# Altium integrated library adafruit.IntLib: 666 symbols (part 2 of 4)
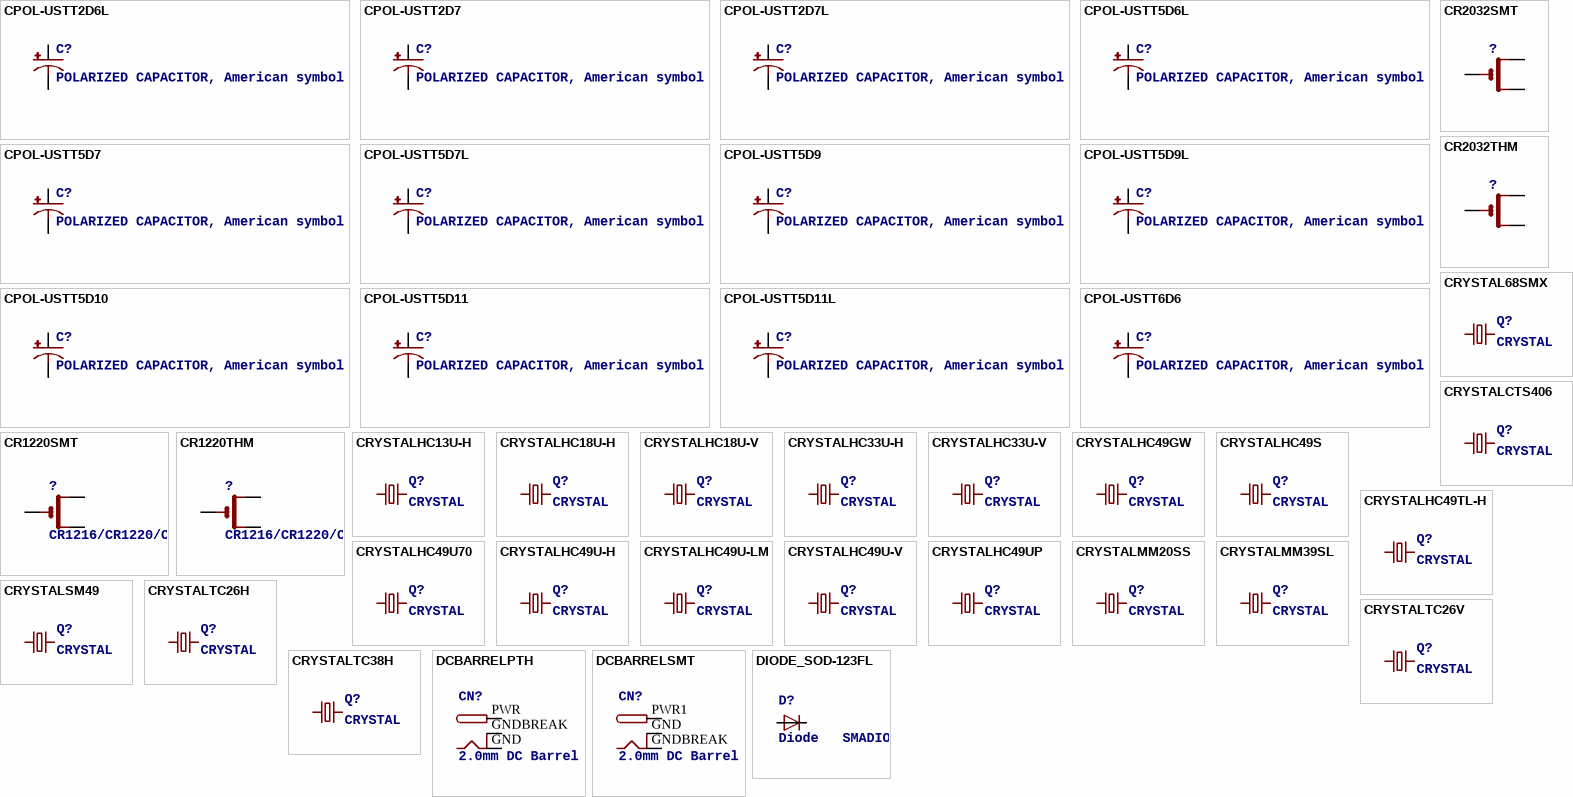
[diagram p32: symbols CPOL-USTT2D6L to DIODE_SOD-123FL]

## CRYSTALHC49TL-H
designator Q?, comment CRYSTAL
OC_FARNELL: unknown; OC_NEWARK: unknown
footprint HC49TL-H
pins: 1, 2

## CRYSTALHC49U70
designator Q?, comment CRYSTAL
OC_FARNELL: unknown; OC_NEWARK: unknown
footprint HC49U70
pins: 1, 2

## CRYSTALHC49U-H
designator Q?, comment CRYSTAL
OC_FARNELL: 1666973; OC_NEWARK: unknown
footprint HC49U-H
pins: 1, 2

## CRYSTALHC49U-LM
designator Q?, comment CRYSTAL
OC_FARNELL: 1666956; OC_NEWARK: unknown
footprint HC49U-LM
pins: 1, 2

## CRYSTALHC49U-V
designator Q?, comment CRYSTAL
OC_FARNELL: 1666969; OC_NEWARK: unknown
footprint HC49U-V
pins: 1, 2

## CRYSTALHC49UP
designator Q?, comment CRYSTAL
OC_FARNELL: unknown; OC_NEWARK: unknown
footprint HC49UP
pins: 1, 2

## CRYSTALMM20SS
designator Q?, comment CRYSTAL
OC_FARNELL: unknown; OC_NEWARK: unknown
footprint MM20SS
pins: 1, 4 2

## CRYSTALMM39SL
designator Q?, comment CRYSTAL
OC_FARNELL: unknown; OC_NEWARK: unknown
footprint MM39SL
pins: 1, 4 2

## CRYSTALSM49
designator Q?, comment CRYSTAL
OC_FARNELL: unknown; OC_NEWARK: unknown
footprint SM49
pins: 1, 2

## CRYSTALTC26H
designator Q?, comment CRYSTAL
OC_FARNELL: unknown; OC_NEWARK: unknown
footprint TC26H
pins: 1, 2

## CRYSTALTC26V
designator Q?, comment CRYSTAL
OC_FARNELL: unknown; OC_NEWARK: unknown
footprint TC26V
pins: 1, 2

## CRYSTALTC38H
designator Q?, comment CRYSTAL
OC_FARNELL: unknown; OC_NEWARK: unknown
footprint TC38H
pins: 1, 2

## DCBARRELPTH
designator CN?, comment 2.0mm DC Barrel JackDCJACK_2MM_PTH - Through Hole Jack (4UConnector: 05537)
footprint DCJACK_2MM_PTH
pins: GND (power), GNDBREAK (power), PWR (power)

## DCBARRELSMT
designator CN?, comment 2.0mm DC Barrel JackDCJACK_2MM_PTH - Through Hole Jack (4UConnector: 05537)
footprint DCJACK_2MM_SMT
pins: GND GNDBREAK (power), GNDBREAK GND (power), PWR1 PWR (power)

## DIODE_SOD-123FL
designator D?, comment Diode   SMADIODE - SMA Surface Mount Package  20V 1A Schottky Diode Digikey: 641-1014-6-ND    DO-1N4148 - Through Hole Small Current Diode SOD-123 20V 1 A (.5mV Vf) Schottky Diode - Digikey: MBRX120TPMSCT-ND    SOD-323 10V 570mA (.38mV Vf, 3ns) Schottky Diode - Digikey: ZLLS410CT-ND    SOD-523 30V 30mA Schottky Diode (RB751S-40TE61) - Digikey: RB751S-40TE61CT-ND    SOT23-R/W - SOT23 Package (R = Solder Paste/Reflow Ovens, W = Hand-Soldering)  BAT54Film 40V 300mA - Digikey: 497-7162-1-ND
footprint SOD-123FL
pins: A, C

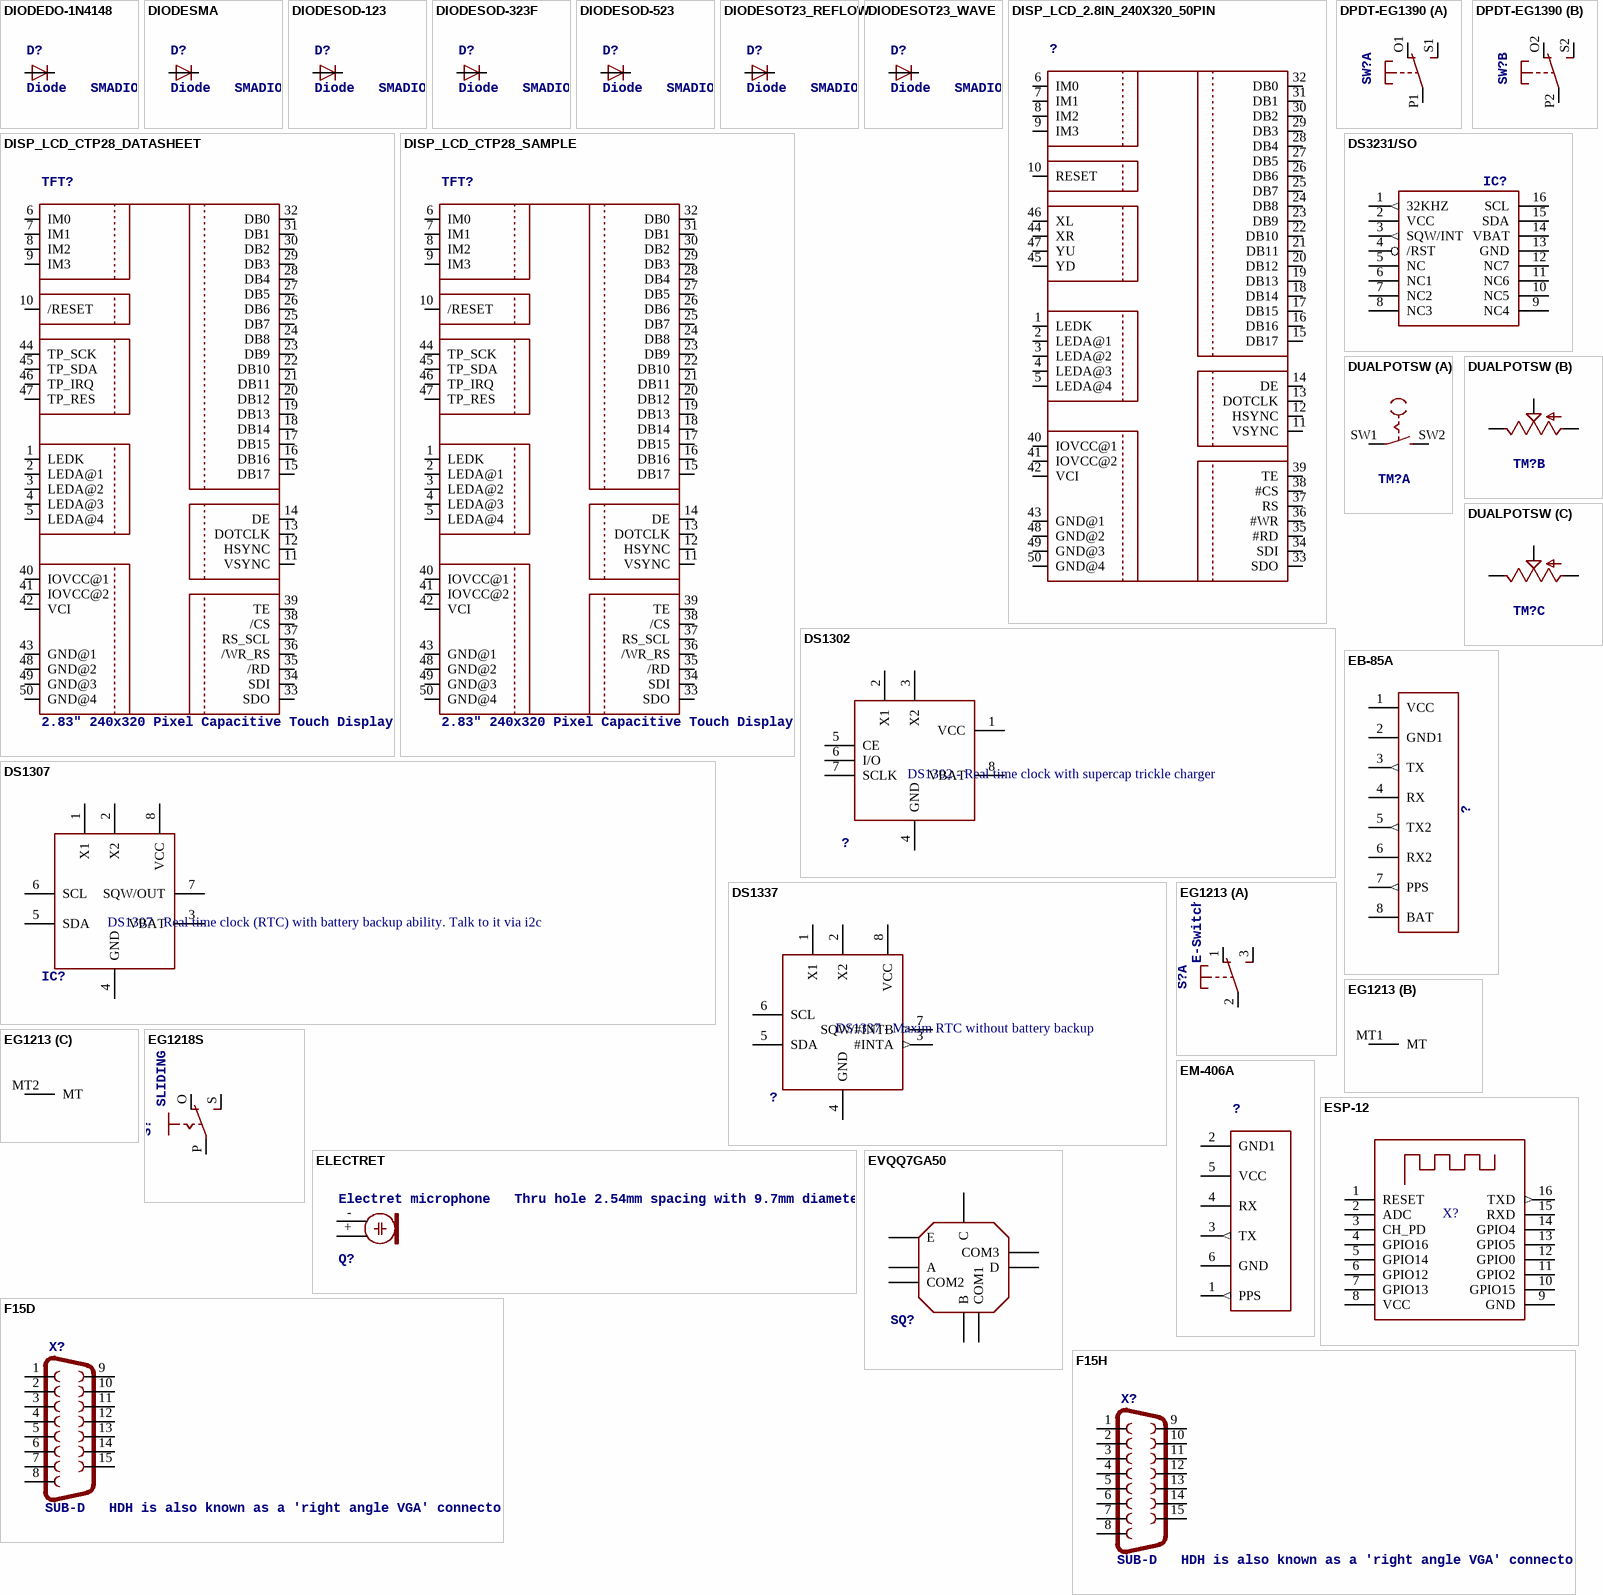
[diagram p16: symbols DIODEDO-1N4148 to F15H]

## DIODEDO-1N4148
designator D?, comment Diode   SMADIODE - SMA Surface Mount Package  20V 1A Schottky Diode Digikey: 641-1014-6-ND    DO-1N4148 - Through Hole Small Current Diode SOD-123 20V 1 A (.5mV Vf) Schottky Diode - Digikey: MBRX120TPMSCT-ND    SOD-323 10V 570mA (.38mV Vf, 3ns) Schottky Diode - Digikey: ZLLS410CT-ND    SOD-523 30V 30mA Schottky Diode (RB751S-40TE61) - Digikey: RB751S-40TE61CT-ND    SOT23-R/W - SOT23 Package (R = Solder Paste/Reflow Ovens, W = Hand-Soldering)  BAT54Film 40V 300mA - Digikey: 497-7162-1-ND
footprint DO-1N4148
pins: A, C

## DIODESMA
designator D?, comment Diode   SMADIODE - SMA Surface Mount Package  20V 1A Schottky Diode Digikey: 641-1014-6-ND    DO-1N4148 - Through Hole Small Current Diode SOD-123 20V 1 A (.5mV Vf) Schottky Diode - Digikey: MBRX120TPMSCT-ND    SOD-323 10V 570mA (.38mV Vf, 3ns) Schottky Diode - Digikey: ZLLS410CT-ND    SOD-523 30V 30mA Schottky Diode (RB751S-40TE61) - Digikey: RB751S-40TE61CT-ND    SOT23-R/W - SOT23 Package (R = Solder Paste/Reflow Ovens, W = Hand-Soldering)  BAT54Film 40V 300mA - Digikey: 497-7162-1-ND
footprint SMADIODE
pins: A, C

## DIODESOD-123
designator D?, comment Diode   SMADIODE - SMA Surface Mount Package  20V 1A Schottky Diode Digikey: 641-1014-6-ND    DO-1N4148 - Through Hole Small Current Diode SOD-123 20V 1 A (.5mV Vf) Schottky Diode - Digikey: MBRX120TPMSCT-ND    SOD-323 10V 570mA (.38mV Vf, 3ns) Schottky Diode - Digikey: ZLLS410CT-ND    SOD-523 30V 30mA Schottky Diode (RB751S-40TE61) - Digikey: RB751S-40TE61CT-ND    SOT23-R/W - SOT23 Package (R = Solder Paste/Reflow Ovens, W = Hand-Soldering)  BAT54Film 40V 300mA - Digikey: 497-7162-1-ND
footprint SOD-123
pins: A, C

## DIODESOD-323F
designator D?, comment Diode   SMADIODE - SMA Surface Mount Package  20V 1A Schottky Diode Digikey: 641-1014-6-ND    DO-1N4148 - Through Hole Small Current Diode SOD-123 20V 1 A (.5mV Vf) Schottky Diode - Digikey: MBRX120TPMSCT-ND    SOD-323 10V 570mA (.38mV Vf, 3ns) Schottky Diode - Digikey: ZLLS410CT-ND    SOD-523 30V 30mA Schottky Diode (RB751S-40TE61) - Digikey: RB751S-40TE61CT-ND    SOT23-R/W - SOT23 Package (R = Solder Paste/Reflow Ovens, W = Hand-Soldering)  BAT54Film 40V 300mA - Digikey: 497-7162-1-ND
footprint SOD-323F
pins: A, C

## DIODESOD-523
designator D?, comment Diode   SMADIODE - SMA Surface Mount Package  20V 1A Schottky Diode Digikey: 641-1014-6-ND    DO-1N4148 - Through Hole Small Current Diode SOD-123 20V 1 A (.5mV Vf) Schottky Diode - Digikey: MBRX120TPMSCT-ND    SOD-323 10V 570mA (.38mV Vf, 3ns) Schottky Diode - Digikey: ZLLS410CT-ND    SOD-523 30V 30mA Schottky Diode (RB751S-40TE61) - Digikey: RB751S-40TE61CT-ND    SOT23-R/W - SOT23 Package (R = Solder Paste/Reflow Ovens, W = Hand-Soldering)  BAT54Film 40V 300mA - Digikey: 497-7162-1-ND
footprint SOD-523
pins: A, K C

## DIODESOT23_REFLOW
designator D?, comment Diode   SMADIODE - SMA Surface Mount Package  20V 1A Schottky Diode Digikey: 641-1014-6-ND    DO-1N4148 - Through Hole Small Current Diode SOD-123 20V 1 A (.5mV Vf) Schottky Diode - Digikey: MBRX120TPMSCT-ND    SOD-323 10V 570mA (.38mV Vf, 3ns) Schottky Diode - Digikey: ZLLS410CT-ND    SOD-523 30V 30mA Schottky Diode (RB751S-40TE61) - Digikey: RB751S-40TE61CT-ND    SOT23-R/W - SOT23 Package (R = Solder Paste/Reflow Ovens, W = Hand-Soldering)  BAT54Film 40V 300mA - Digikey: 497-7162-1-ND
footprint SOT23-R
pins: 1 A, 3 C

## DIODESOT23_WAVE
designator D?, comment Diode   SMADIODE - SMA Surface Mount Package  20V 1A Schottky Diode Digikey: 641-1014-6-ND    DO-1N4148 - Through Hole Small Current Diode SOD-123 20V 1 A (.5mV Vf) Schottky Diode - Digikey: MBRX120TPMSCT-ND    SOD-323 10V 570mA (.38mV Vf, 3ns) Schottky Diode - Digikey: ZLLS410CT-ND    SOD-523 30V 30mA Schottky Diode (RB751S-40TE61) - Digikey: RB751S-40TE61CT-ND    SOT23-R/W - SOT23 Package (R = Solder Paste/Reflow Ovens, W = Hand-Soldering)  BAT54Film 40V 300mA - Digikey: 497-7162-1-ND
footprint SOT23-W
pins: 1 A, 3 C

## DISP_LCD_2.8IN_240X320_50PIN
designator ?
footprint TFT_2.83IN_240X320_50PIN
pins: 1 LEDK, 2 LEDA@1, 3 LEDA@2, 4 LEDA@3, 5 LEDA@4, 6 IM0, 7 IM1, 8 IM2, 9 IM3, 10 RESET, 11 VSYNC, 12 HSYNC, 13 DOTCLK, 14 DE, 15 DB17, 16 DB16, 17 DB15, 18 DB14, 19 DB13, 20 DB12, 21 DB11, 22 DB10, 23 DB9, 24 DB8, 25 DB7, 26 DB6, 27 DB5, 28 DB4, 29 DB3, 30 DB2, 31 DB1, 32 DB0, 33 SDO, 34 SDI, 35 #RD, 36 #WR, 37 RS, 38 #CS, 39 TE, 40 IOVCC@1, 41 IOVCC@2, 42 VCI, 43 GND@1, 44 XR, 45 YD, 46 XL, 47 YU, 48 GND@2, 49 GND@3, 50 GND@4

## DISP_LCD_CTP28_DATASHEET
designator TFT?, comment 2.83" 240x320 Pixel Capacitive Touch Display
footprint TFT_CTP28
pins: 1 LEDK, 2 LEDA@1, 3 LEDA@2, 4 LEDA@3, 5 LEDA@4, 6 IM0, 7 IM1, 8 IM2, 9 IM3, 10 /RESET, 11 VSYNC, 12 HSYNC, 13 DOTCLK, 14 DE, 15 DB17, 16 DB16, 17 DB15, 18 DB14, 19 DB13, 20 DB12, 21 DB11, 22 DB10, 23 DB9, 24 DB8, 25 DB7, 26 DB6, 27 DB5, 28 DB4, 29 DB3, 30 DB2, 31 DB1, 32 DB0, 33 SDO, 34 SDI, 35 /RD, 36 /WR_RS, 37 RS_SCL, 38 /CS, 39 TE, 40 IOVCC@1, 41 IOVCC@2, 42 VCI, 43 GND@1, 44 TP_SCK, 45 TP_SDA, 46 TP_IRQ, 47 TP_RES, 48 GND@2, 49 GND@3, 50 GND@4

## DISP_LCD_CTP28_SAMPLE
designator TFT?, comment 2.83" 240x320 Pixel Capacitive Touch Display
footprint TFT_2.83IN_240X320_50PIN
pins: 1 LEDK, 2 LEDA@1, 3 LEDA@2, 4 LEDA@3, 5 LEDA@4, 6 IM0, 7 IM1, 8 IM2, 9 IM3, 10 /RESET, 11 VSYNC, 12 HSYNC, 13 DOTCLK, 14 DE, 15 DB17, 16 DB16, 17 DB15, 18 DB14, 19 DB13, 20 DB12, 21 DB11, 22 DB10, 23 DB9, 24 DB8, 25 DB7, 26 DB6, 27 DB5, 28 DB4, 29 DB3, 30 DB2, 31 DB1, 32 DB0, 33 SDO, 34 SDI, 35 /RD, 36 /WR_RS, 37 RS_SCL, 38 /CS, 39 TE, 40 IOVCC@1, 41 IOVCC@2, 42 VCI, 43 GND@1, 44 TP_SCK, 45 TP_SDA, 46 TP_IRQ, 47 TP_RES, 48 GND@2, 49 GND@3, 50 GND@4

## DPDT-EG1390
designator SW?
footprint EG1390
part A pins: O1 O, P1 P, S1 S
part B pins: O2 O, P2 P, S2 S

## DS1302
designator ?, comment DS1302 - Real time clock with supercap trickle charger
footprint DIL08-ROUND
pins: 1 VCC (power), 2 X1, 3 X2, 4 GND (power), 5 CE, 6 I/O, 7 SCLK, 8 VBAT (power)

## DS1307
designator IC?, comment DS1307   Real time clock (RTC) with battery backup ability. Talk to it via i2c
footprint DIL08
pins: 1 X1, 2 X2, 3 VBAT (power), 4 GND (power), 5 SDA, 6 SCL, 7 SQW/OUT, 8 VCC (power)

## DS1337
designator ?, comment DS1337 - Maxim RTC without battery backup
footprint DIL08-ROUND
pins: 1 X1, 2 X2, 3 #INTA (out), 4 GND (power), 5 SDA, 6 SCL, 7 SQW/#INTB (out), 8 VCC (power)

## DS3231/SO
designator IC?
footprint SO16W
pins: 1 32KHZ (out), 2 VCC (power), 3 SQW/INT (out), 4 /RST, 5 NC, 6 NC1, 7 NC2, 8 NC3, 9 NC4, 10 NC5, 11 NC6, 12 NC7, 13 GND (power), 14 VBAT (power), 15 SDA, 16 SCL

## DUALPOTSW
designator TM?
footprint RK0971221
part A pins: SW1 P, SW2 S
part B pins: A2 E, B2 A, W2 S
part C pins: A1 E, B1 A, W1 S

## EB-85A
designator ?
footprint JST-8POS
pins: 1 VCC (oe), 2 GND1 (oe), 3 TX (out), 4 RX, 5 TX2 (out), 6 RX2, 7 PPS (out), 8 BAT (oe)

## EG1213
designator S?, comment E-Switch right-angle slide SPDT Part #EG1213    http://www.ladyada.net/library/eagle
footprint EG1213
part A pins: 1 O, 2 P, 3 S
part B pins: MT1 MT
part C pins: MT2 MT

## EG1218S
designator S?, comment SLIDING SWITCH   0.1" spacing through hole, vertical SPDT slide switch    http://www.ladyada.net/library/pcb/eaglelibrary.html
footprint EG1218
pins: O, P, S

## ELECTRET
designator Q?, comment Electret microphone   Thru hole 2.54mm spacing with 9.7mm diameter
footprint 9.7ELECTRET
pins: + 2, - 1

## EM-406A
designator ?
footprint JST-6POS
pins: 1 PPS (out), 2 GND1 (oe), 3 TX (out), 4 RX, 5 VCC (oe), 6 GND (oe)

## ESP-12
designator X?
footprint ESP-12
pins: 1 RESET, 2 ADC, 3 CH_PD, 4 GPIO16, 5 GPIO14, 6 GPIO12, 7 GPIO13, 8 VCC (power), 9 GND (power), 10 GPIO15, 11 GPIO2, 12 GPIO0, 13 GPIO5, 14 GPIO4, 15 RXD, 16 TXD (out)

## EVQQ7GA50
designator SQ?
footprint EVQQ7GA50
pins: A, B, C, COM1, COM2, COM3, D, E

## F15D
designator X?, comment SUB-D   HDH is also known as a 'right angle VGA' connector
footprint F15D
pins: 1, 2, 3, 4, 5, 6, 7, 8, 9, 10, 11, 12, 13, 14, 15

## F15H
designator X?, comment SUB-D   HDH is also known as a 'right angle VGA' connector
footprint F15H
pins: 1, 2, 3, 4, 5, 6, 7, 8, 9, 10, 11, 12, 13, 14, 15

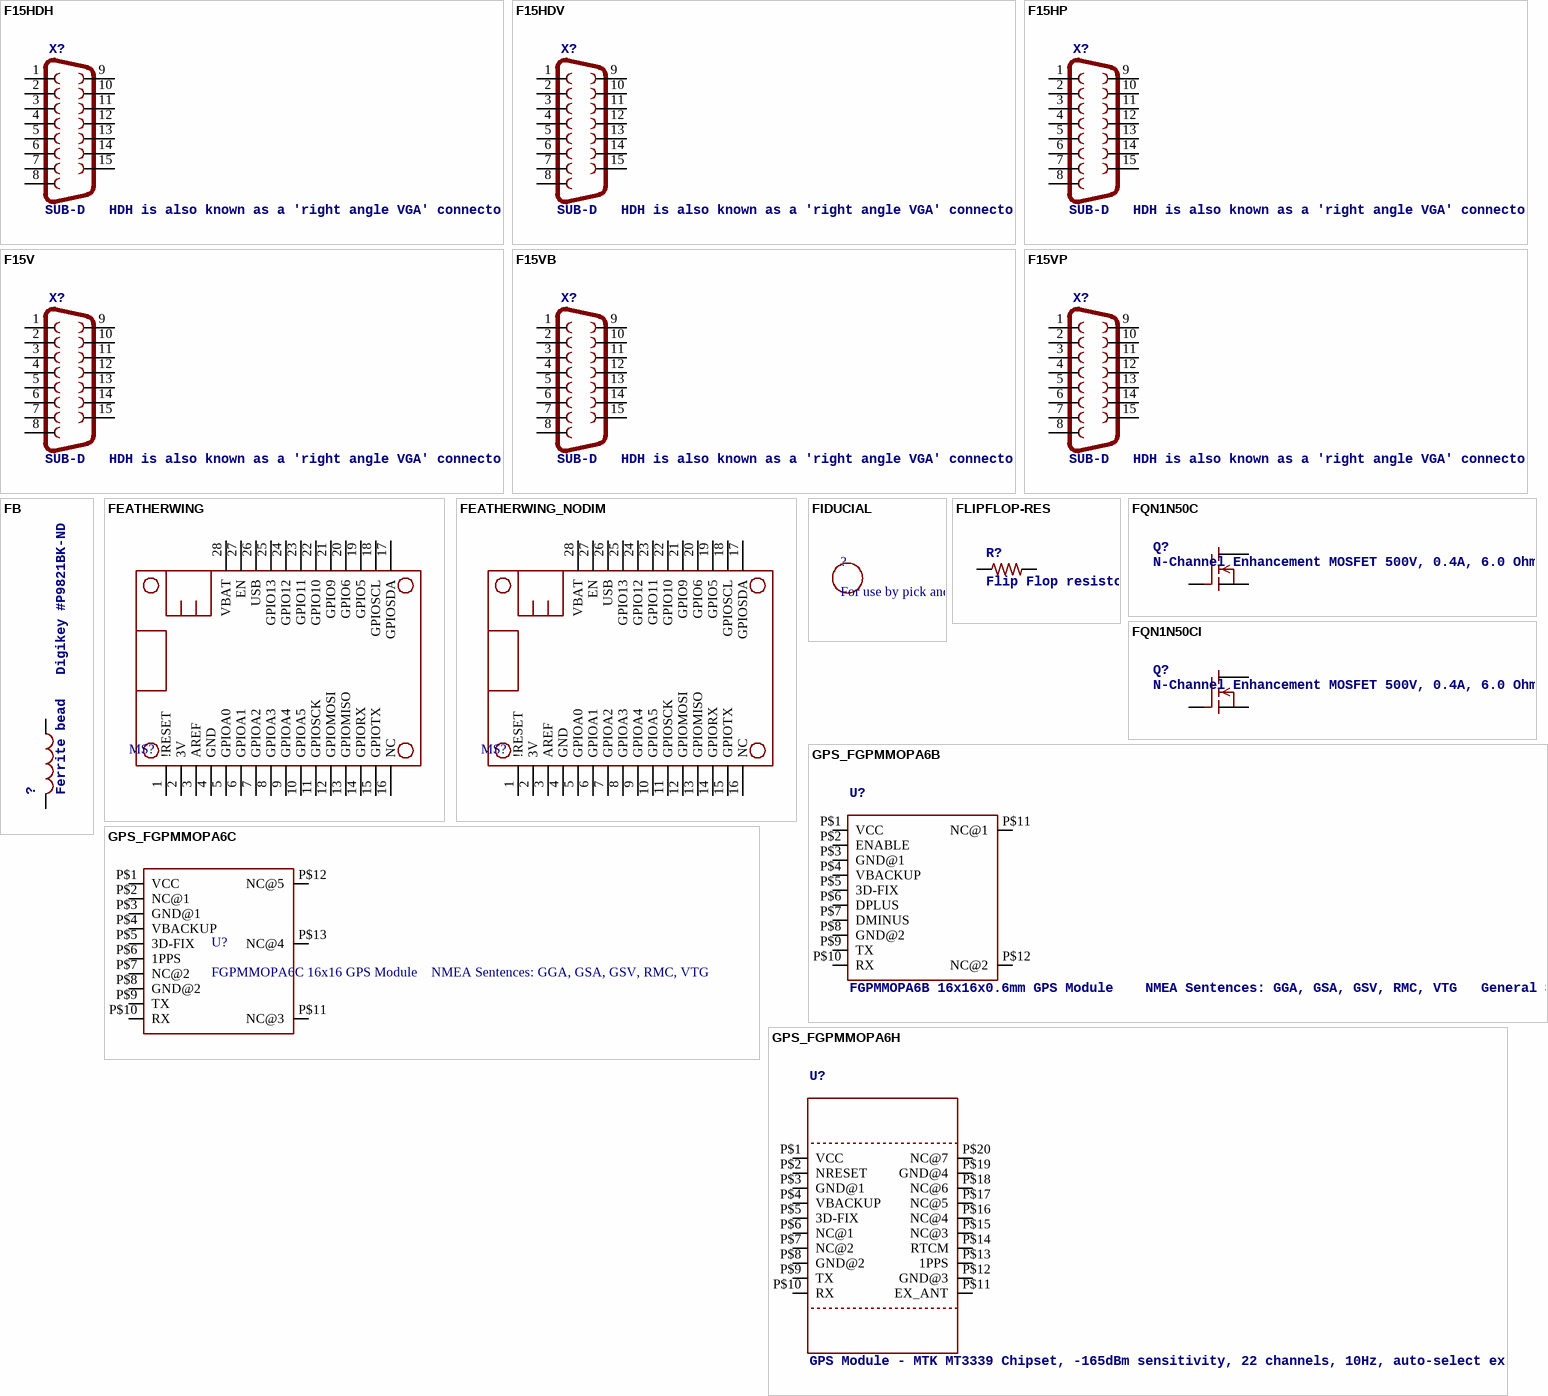
[diagram p17: symbols F15HDH to GPS_FGPMMOPA6H]

## F15HDH
designator X?, comment SUB-D   HDH is also known as a 'right angle VGA' connector
footprint HDF15H
pins: 1, 2, 3, 4, 5, 6, 7, 8, 9, 10, 11, 12, 13, 14, 15

## F15HDV
designator X?, comment SUB-D   HDH is also known as a 'right angle VGA' connector
footprint HDF15V
pins: 1, 2, 3, 4, 5, 6, 7, 8, 9, 10, 11, 12, 13, 14, 15

## F15HP
designator X?, comment SUB-D   HDH is also known as a 'right angle VGA' connector
footprint F15HP
pins: 1, 2, 3, 4, 5, 6, 7, 8, 9, 10, 11, 12, 13, 14, 15

## F15V
designator X?, comment SUB-D   HDH is also known as a 'right angle VGA' connector
footprint F15V
pins: 1, 2, 3, 4, 5, 6, 7, 8, 9, 10, 11, 12, 13, 14, 15

## F15VB
designator X?, comment SUB-D   HDH is also known as a 'right angle VGA' connector
footprint F15VB
pins: 1, 2, 3, 4, 5, 6, 7, 8, 9, 10, 11, 12, 13, 14, 15

## F15VP
designator X?, comment SUB-D   HDH is also known as a 'right angle VGA' connector
footprint F15VP
pins: 1, 2, 3, 4, 5, 6, 7, 8, 9, 10, 11, 12, 13, 14, 15

## FB
designator ?, comment Ferrite bead   Digikey #P9821BK-ND
footprint FB
pins: P$1 1, P$2 2

## FEATHERWING
designator MS?
footprint FEATHERWING
pins: 1 !RESET, 2 3V (oe), 3 AREF, 4 GND (power), 5 GPIOA0, 6 GPIOA1, 7 GPIOA2, 8 GPIOA3, 9 GPIOA4, 10 GPIOA5, 11 GPIOSCK, 12 GPIOMOSI, 13 GPIOMISO, 14 GPIORX, 15 GPIOTX, 16 NC, 17 GPIOSDA, 18 GPIOSCL, 19 GPIO5, 20 GPIO6, 21 GPIO9, 22 GPIO10, 23 GPIO11, 24 GPIO12, 25 GPIO13, 26 USB (oe), 27 EN, 28 VBAT (oe)

## FEATHERWING_NODIM
designator MS?
footprint FEATHERWING_DIM
pins: 1 !RESET, 2 3V (oe), 3 AREF, 4 GND (power), 5 GPIOA0, 6 GPIOA1, 7 GPIOA2, 8 GPIOA3, 9 GPIOA4, 10 GPIOA5, 11 GPIOSCK, 12 GPIOMOSI, 13 GPIOMISO, 14 GPIORX, 15 GPIOTX, 16 NC, 17 GPIOSDA, 18 GPIOSCL, 19 GPIO5, 20 GPIO6, 21 GPIO9, 22 GPIO10, 23 GPIO11, 24 GPIO12, 25 GPIO13, 26 USB (oe), 27 EN, 28 VBAT (oe)

## FIDUCIAL
designator ?, comment For use by pick and place machines to calibrate the vision/machine, 1mm    By microbuilder.eu
footprint FIDUCIAL_1MM

## FLIPFLOP-RES
designator R?, comment Flip Flop resistor   An 0805 resistor inside a standard 1/4W 5% resistor. Makes for easy mods
footprint 0805-THM
pins: 1, 2

## FQN1N50C
designator Q?, comment N-Channel Enhancement MOSFET 500V, 0.4A, 6.0 Ohm
footprint TO92
pins: 1 G, 2 D, 3 S

## FQN1N50CI
designator Q?, comment N-Channel Enhancement MOSFET 500V, 0.4A, 6.0 Ohm
footprint TO92-INLINE
pins: 1 D, 2 G, 3 S

## GPS_FGPMMOPA6B
designator U?, comment FGPMMOPA6B 16x16x0.6mm GPS Module    NMEA Sentences: GGA, GSA, GSV, RMC, VTG   General Specifications Chipset: MTK MT3329  Baud Rate: 9600bps (default)  Update Rate: 1Hz (default)  Cold Start: ~35s  Operating Temp: -40 to 85°C       DC Characteristics Supply Voltage: 3.2-5.0V  Backup Battery Voltage: 2.0-4.3V  Digital Logic (UART): 3.3V  I(Tracking): 42mA  I(Acquisition): 53mA  I(BackupBattery): 10uA
footprint FGPMMOPA6B
pins: P$1 VCC, P$2 ENABLE, P$3 GND@1, P$4 VBACKUP, P$5 3D-FIX, P$6 DPLUS, P$7 DMINUS, P$8 GND@2, P$9 TX, P$10 RX, P$11 NC@1, P$12 NC@2

## GPS_FGPMMOPA6C
designator U?, comment FGPMMOPA6C 16x16 GPS Module    NMEA Sentences: GGA, GSA, GSV, RMC, VTG
footprint FGPMMOPA6C
pins: P$1 VCC, P$2 NC@1, P$3 GND@1, P$4 VBACKUP, P$5 3D-FIX, P$6 1PPS, P$7 NC@2, P$8 GND@2, P$9 TX, P$10 RX, P$11 NC@3, P$12 NC@5, P$13 NC@4

## GPS_FGPMMOPA6H
designator U?, comment GPS Module - MTK MT3339 Chipset, -165dBm sensitivity, 22 channels, 10Hz, auto-select external antenna options
footprint FGPMMOPA6H
pins: P$1 VCC, P$2 NRESET, P$3 GND@1, P$4 VBACKUP, P$5 3D-FIX, P$6 NC@1, P$7 NC@2, P$8 GND@2, P$9 TX, P$10 RX, P$11 EX_ANT, P$12 GND@3, P$13 1PPS, P$14 RTCM, P$15 NC@3, P$16 NC@4, P$17 NC@5, P$18 NC@6, P$19 GND@4, P$20 NC@7

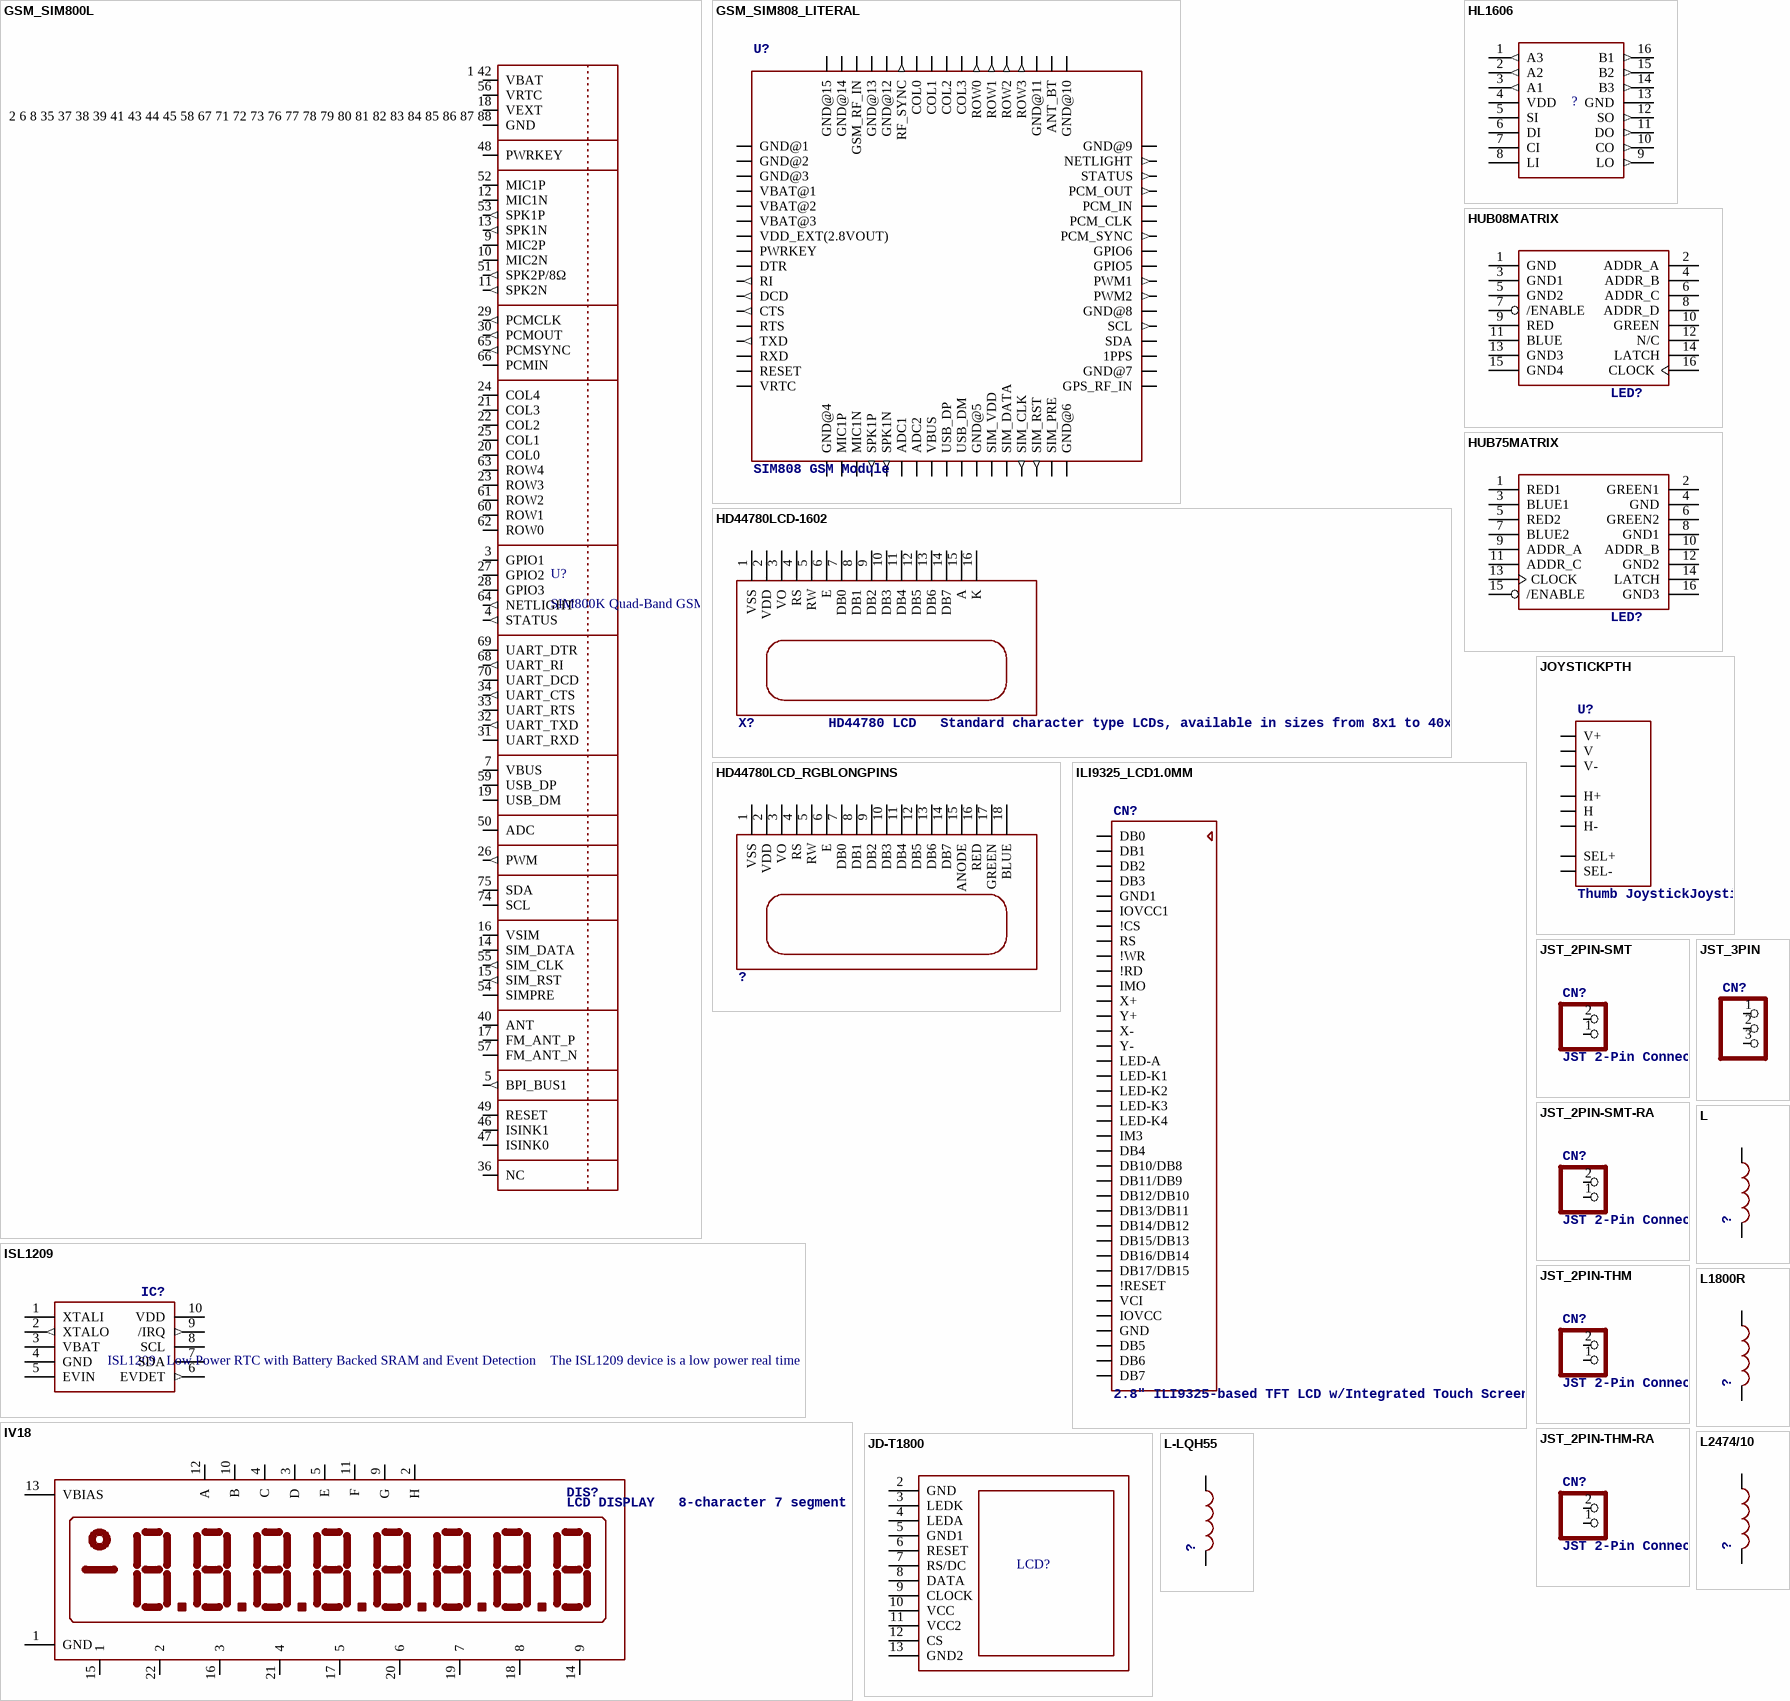
[diagram p18: symbols GSM_SIM800L to L-LQH55]

## GSM_SIM800L
designator U?, comment SIM800K Quad-Band GSM/GPRS Module 850/900/1800/1900 MHz  Bluetooth EDR (3.0)  FM Band: 76-109MHz (50kHz steps)  -40 - 85°C
footprint SIM800L
pins: 1 42 VBAT (power), 2 6 8 35 37 38 39 41 43 44 45 58 67 71 72 73 76 77 78 79 80 81 82 83 84 85 86 87 88 GND (power), 3 GPIO1, 4 STATUS (out), 5 BPI_BUS1 (out), 7 VBUS (power), 9 MIC2P, 10 MIC2N, 11 SPK2N (out), 12 MIC1N, 13 SPK1N (out), 14 SIM_DATA, 15 SIM_RST (out), 16 VSIM (power), 17 FM_ANT_P, 18 VEXT (power), 19 USB_DM, 20 COL0, 21 COL3, 22 COL2, 23 ROW3, 24 COL4, 25 COL1, 26 PWM (out), 27 GPIO2, 28 GPIO3, 29 PCMCLK (out), 30 PCMOUT (out), 31 UART_RXD, 32 UART_TXD (out), 33 UART_RTS, 34 UART_CTS (out), 36 NC, 40 ANT, 46 ISINK1, 47 ISINK0, 48 PWRKEY, 49 RESET, 50 ADC, 51 SPK2P/8Ω (out), 52 MIC1P, 53 SPK1P (out), 54 SIMPRE, 55 SIM_CLK (out), 56 VRTC (power), 57 FM_ANT_N, 59 USB_DP, 60 ROW1, 61 ROW2, 62 ROW0, 63 ROW4, 64 NETLIGHT (out), 65 PCMSYNC (out), 66 PCMIN, 68 UART_RI (out), 69 UART_DTR, 70 UART_DCD, 74 SCL, 75 SDA

## GSM_SIM808_LITERAL
designator U?, comment SIM808 GSM Module
footprint SIM900_SMT
pins: P$1 GND@1 (power), P$2 GND@2 (power), P$3 GND@3 (power), P$4 VBAT@1 (power), P$5 VBAT@2 (power), P$6 VBAT@3 (power), P$7 VDD_EXT(2.8VOUT) (power), P$8 PWRKEY, P$9 DTR, P$10 RI (out), P$11 DCD (out), P$12 CTS (out), P$13 RTS, P$14 TXD (out), P$15 RXD, P$16 RESET, P$17 VRTC (power), P$18 GND@4 (power), P$19 MIC1P, P$20 MIC1N, P$21 SPK1P (out), P$22 SPK1N (out), P$23 ADC1, P$24 ADC2, P$25 VBUS (power), P$26 USB_DP, P$27 USB_DM, P$28 GND@5 (power), P$29 SIM_VDD (power), P$30 SIM_DATA, P$31 SIM_CLK (out), P$32 SIM_RST (out), P$33 SIM_PRE, P$34 GND@6 (power), P$35 GPS_RF_IN, P$36 GND@7 (power), P$37 1PPS, P$38 SDA, P$39 SCL (out), P$40 GND@8 (power), P$41 PWM2 (out), P$42 PWM1 (out), P$43 GPIO5, P$44 GPIO6, P$45 PCM_SYNC (out), P$46 PCM_CLK, P$47 PCM_IN, P$48 PCM_OUT (out), P$49 STATUS (out), P$50 NETLIGHT (out), P$51 GND@9 (power), P$52 GND@10 (power), P$53 ANT_BT, P$54 GND@11 (power), P$55 ROW3 (out), P$56 ROW2 (out), P$57 ROW1 (out), P$58 ROW0 (out), P$59 COL3, P$60 COL2, P$61 COL1, P$62 COL0, P$63 RF_SYNC (out), P$64 GND@12 (power), P$65 GND@13 (power), P$66 GSM_RF_IN, P$67 GND@14 (power), P$68 GND@15 (power)

## HD44780LCD-1602
designator X?, comment HD44780 LCD   Standard character type LCDs, available in sizes from 8x1 to 40x4!
footprint LCD1602
pins: 1 VSS (oe), 2 VDD (oe), 3 VO, 4 RS, 5 RW, 6 E, 7 DB0, 8 DB1, 9 DB2, 10 DB3, 11 DB4, 12 DB5, 13 DB6, 14 DB7, 15 A, 16 K

## HD44780LCD_RGBLONGPINS
designator ?
footprint LCD1602-RGB
pins: 1 VSS (oe), 2 VDD (oe), 3 VO, 4 RS, 5 RW, 6 E, 7 DB0, 8 DB1, 9 DB2, 10 DB3, 11 DB4, 12 DB5, 13 DB6, 14 DB7, 15 ANODE, 16 RED, 17 GREEN, 18 BLUE

## HL1606
designator ?
footprint SO16
pins: 1 A3 (out), 2 A2 (out), 3 A1 (out), 4 VDD (power), 5 SI, 6 DI, 7 CI, 8 LI, 9 LO (out), 10 CO (out), 11 DO (out), 12 SO (out), 13 GND (power), 14 B3 (out), 15 B2 (out), 16 B1 (out)

## HUB08MATRIX
designator LED?
footprint 2X08-IDC
pins: 1 GND (power), 2 ADDR_A, 3 GND1 (power), 4 ADDR_B, 5 GND2 (power), 6 ADDR_C, 7 /ENABLE, 8 ADDR_D, 9 RED, 10 GREEN, 11 BLUE, 12 N/C, 13 GND3 (power), 14 LATCH, 15 GND4 (power), 16 CLOCK

## HUB75MATRIX
designator LED?
footprint 2X08-IDC
pins: 1 RED1, 2 GREEN1, 3 BLUE1, 4 GND (power), 5 RED2, 6 GREEN2, 7 BLUE2, 8 GND1 (power), 9 ADDR_A, 10 ADDR_B, 11 ADDR_C, 12 GND2 (power), 13 CLOCK, 14 LATCH, 15 /ENABLE, 16 GND3 (power)

## ILI9325_LCD1.0MM
designator CN?, comment 2.8" ILI9325-based TFT LCD w/Integrated Touch Screen
footprint ILI9325_28INCH_TS
pins: 1 DB0, 2 DB1, 3 DB2, 4 DB3, 5 GND1 (power), 6 IOVCC1 (power), 7 !CS, 8 RS, 9 !WR, 10 !RD, 11 IMO, 12 X+, 13 Y+, 14 X-, 15 Y-, 16 LED-A, 17 LED-K1, 18 LED-K2, 19 LED-K3, 20 LED-K4, 21 IM3, 22 DB4, 23 DB10/DB8, 24 DB11/DB9, 25 DB12/DB10, 26 DB13/DB11, 27 DB14/DB12, 28 DB15/DB13, 29 DB16/DB14, 30 DB17/DB15, 31 !RESET, 32 VCI (power), 33 IOVCC (power), 34 GND (power), 35 DB5, 36 DB6, 37 DB7

## ISL1209
designator IC?, comment ISL1209   Low Power RTC with Battery Backed SRAM and Event Detection    The ISL1209 device is a low power real time clock with event detect function, timing and crystal compensation, clock/calendar, power fail indicator, periodic or polled alarm, intelligent battery backup switching and battery-backed user SRAM.
footprint MSOP10
pins: 1 XTALI, 2 XTALO (out), 3 VBAT (power), 4 GND (power), 5 EVIN, 6 EVDET (out), 7 SDA, 8 SCL, 9 /IRQ (out), 10 VDD (power)

## IV18
designator DIS?, comment LCD DISPLAY   8-character 7 segment
footprint IV18
pins: 1 GND (oe), 2 H, 3 D, 4 C, 5 E, 9 G, 10 B, 11 F, 12 A, 13 VBIAS (oe), 14 9, 15 1, 16 3, 17 5, 18 8, 19 7, 20 6, 21 4, 22 2

## JD-T1800
designator LCD?
footprint JD-T1800
pins: 2 GND (power), 3 LEDK, 4 LEDA, 5 GND1 (power), 6 RESET, 7 RS/DC, 8 DATA, 9 CLOCK, 10 VCC (power), 11 VCC2 (power), 12 CS, 13 GND2 (power)

## JOYSTICKPTH
designator U?, comment Thumb JoystickJoystick commonly found in PS2 controllers. Two pots and a select switch. Adapted from Sparkfun Library (but for more common 6mm switch sticks)
footprint JOYSTICK
pins: B1A SEL+, B2A SEL-, H1 H+, H2 H, H3 H-, V1 V+, V2 V, V3 V-

## JST_2PIN-SMT
designator CN?, comment JST 2-Pin Connectors of various flavors SMT-RA (S2B-PH-SM4) 4UConnector #17311  SMT  (B2B-PH-SM4)  THM-RA (S2B-PH)  THM  (B2B-PH)
footprint JST-PH-2-SMT
pins: 1 2, 2 1

## JST_2PIN-SMT-RA
designator CN?, comment JST 2-Pin Connectors of various flavors SMT-RA (S2B-PH-SM4) 4UConnector #17311  SMT  (B2B-PH-SM4)  THM-RA (S2B-PH)  THM  (B2B-PH)
footprint JST-PH-2-SMT-RA
pins: 1 2, 2 1

## JST_2PIN-THM
designator CN?, comment JST 2-Pin Connectors of various flavors SMT-RA (S2B-PH-SM4) 4UConnector #17311  SMT  (B2B-PH-SM4)  THM-RA (S2B-PH)  THM  (B2B-PH)
footprint JST-PH-2-THM
pins: 1 2, 2 1

## JST_2PIN-THM-RA
designator CN?, comment JST 2-Pin Connectors of various flavors SMT-RA (S2B-PH-SM4) 4UConnector #17311  SMT  (B2B-PH-SM4)  THM-RA (S2B-PH)  THM  (B2B-PH)
footprint JST-PH-2-THM-RA
pins: 1 2, 2 1

## JST_3PIN
designator CN?
footprint JSTPH3
pins: 1, 2, 3

## L
designator ?
footprint 6000
pins: 1, 2

## L1800R
designator ?
footprint 1800R
pins: 1, 2

## L2474/10
designator ?
footprint 2747
pins: P$1 1, P$2 2

## L-LQH55
designator ?
footprint LQH55
pins: 1, 2

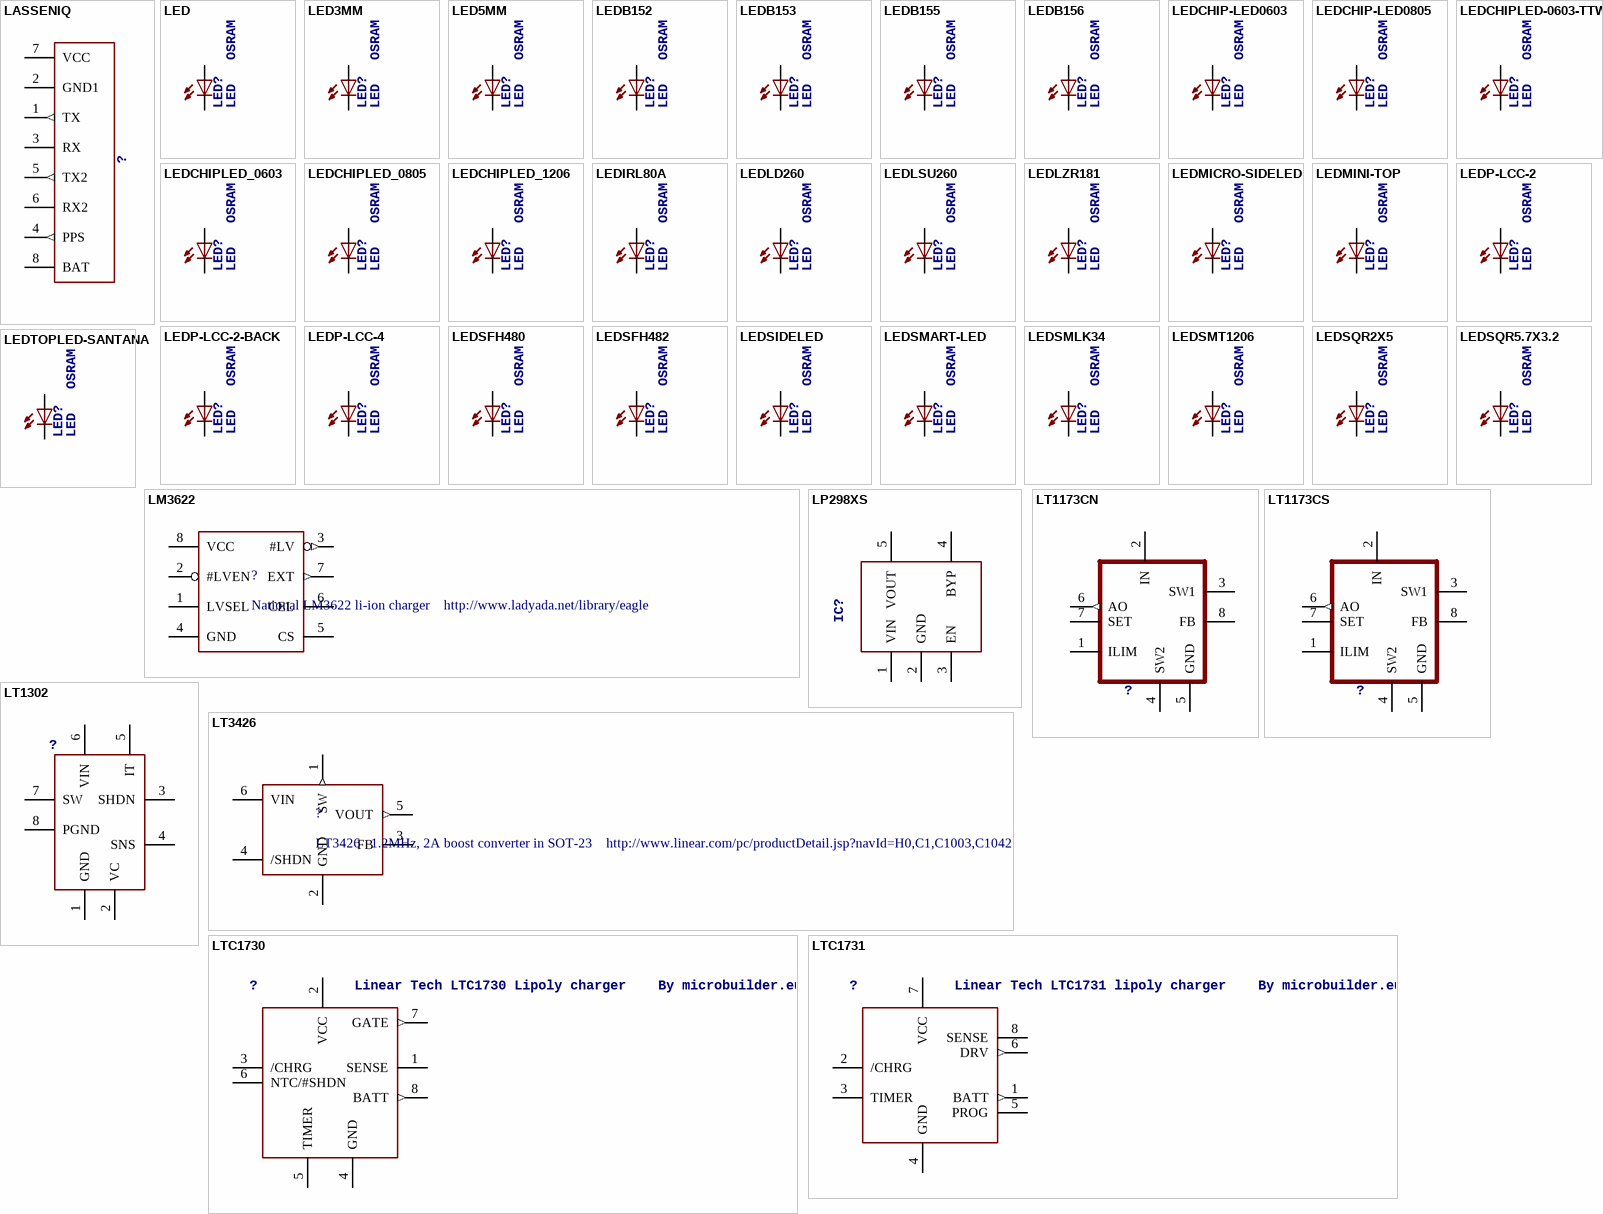
[diagram p19: symbols LASSENIQ to LTC1731]

## LASSENIQ
designator ?
footprint TRIMBLE
pins: 1 TX (out), 2 GND1 (oe), 3 RX, 4 PPS (out), 5 TX2 (out), 6 RX2, 7 VCC (oe), 8 BAT (oe)

## LED
designator LED?, comment LED   OSRAM: - CHIPLED LG R971, LG N971, LY N971, LG Q971, LY Q971, LO R971, LY R971 LH N974, LH R974 LS Q976, LO Q976, LY Q976 LO Q996 - Hyper CHIPLED LW Q18S LB Q993, LB Q99A, LB R99A - SideLED LS A670, LO A670, LY A670, LG A670, LP A670 LB A673, LV A673, LT A673, LW A673 LH A674 LY A675 LS A676, LA A676, LO A676, LY A676, LW A676 LS A679, LY A679, LG A679 -  Hyper Micro SIDELED® LS Y876, LA Y876, LO Y876, LY Y876 LT Y87S - SmartLED LW L88C, LW L88S LB L89C, LB L89S, LG L890 LS L89K, LO L89K, LY L89K LS L896, LA L896, LO L896, LY L896 - TOPLED LS T670, LO T670, LY T670, LG T670, LP T670 LSG T670, LSP T670, LSY T670, LOP T670, LYG T670 LG T671, LOG T671, LSG T671 LB T673, LV T673, LT T673, LW T673 LH T674 LS T676, LA T676, LO T676, LY T676, LB T676, LH T676, LSB T676, LW T676 LB T67C, LV T67C, LT T67C, LS T67K, LO T67K, LY T67K, LW E67C LS E67B, LA E67B, LO E67B, LY E67B, LB E67C, LV E67C, LT E67C LW T67C LS T679, LY T679, LG T679 LS T770, LO T770, LY T770, LG T770, LP T770 LB T773, LV T773, LT T773, LW T773 LH T774 LS E675, LA E675, LY E675, LS T675 LS T776, LA T776, LO T776, LY T776, LB T776 LHGB T686 LT T68C, LB T68C - Hyper Mini TOPLED® LB M676 - Mini TOPLED Santana® LG M470 LS M47K, LO M47K, LY M47K    Source: http://www.osram.convergy.de/
footprint SMARTLED-TTW
pins: A@1 A, C@1 C

## LED3MM
designator LED?, comment LED   OSRAM: - CHIPLED LG R971, LG N971, LY N971, LG Q971, LY Q971, LO R971, LY R971 LH N974, LH R974 LS Q976, LO Q976, LY Q976 LO Q996 - Hyper CHIPLED LW Q18S LB Q993, LB Q99A, LB R99A - SideLED LS A670, LO A670, LY A670, LG A670, LP A670 LB A673, LV A673, LT A673, LW A673 LH A674 LY A675 LS A676, LA A676, LO A676, LY A676, LW A676 LS A679, LY A679, LG A679 -  Hyper Micro SIDELED® LS Y876, LA Y876, LO Y876, LY Y876 LT Y87S - SmartLED LW L88C, LW L88S LB L89C, LB L89S, LG L890 LS L89K, LO L89K, LY L89K LS L896, LA L896, LO L896, LY L896 - TOPLED LS T670, LO T670, LY T670, LG T670, LP T670 LSG T670, LSP T670, LSY T670, LOP T670, LYG T670 LG T671, LOG T671, LSG T671 LB T673, LV T673, LT T673, LW T673 LH T674 LS T676, LA T676, LO T676, LY T676, LB T676, LH T676, LSB T676, LW T676 LB T67C, LV T67C, LT T67C, LS T67K, LO T67K, LY T67K, LW E67C LS E67B, LA E67B, LO E67B, LY E67B, LB E67C, LV E67C, LT E67C LW T67C LS T679, LY T679, LG T679 LS T770, LO T770, LY T770, LG T770, LP T770 LB T773, LV T773, LT T773, LW T773 LH T774 LS E675, LA E675, LY E675, LS T675 LS T776, LA T776, LO T776, LY T776, LB T776 LHGB T686 LT T68C, LB T68C - Hyper Mini TOPLED® LB M676 - Mini TOPLED Santana® LG M470 LS M47K, LO M47K, LY M47K    Source: http://www.osram.convergy.de/
footprint LED3MM
pins: A, K C

## LED5MM
designator LED?, comment LED   OSRAM: - CHIPLED LG R971, LG N971, LY N971, LG Q971, LY Q971, LO R971, LY R971 LH N974, LH R974 LS Q976, LO Q976, LY Q976 LO Q996 - Hyper CHIPLED LW Q18S LB Q993, LB Q99A, LB R99A - SideLED LS A670, LO A670, LY A670, LG A670, LP A670 LB A673, LV A673, LT A673, LW A673 LH A674 LY A675 LS A676, LA A676, LO A676, LY A676, LW A676 LS A679, LY A679, LG A679 -  Hyper Micro SIDELED® LS Y876, LA Y876, LO Y876, LY Y876 LT Y87S - SmartLED LW L88C, LW L88S LB L89C, LB L89S, LG L890 LS L89K, LO L89K, LY L89K LS L896, LA L896, LO L896, LY L896 - TOPLED LS T670, LO T670, LY T670, LG T670, LP T670 LSG T670, LSP T670, LSY T670, LOP T670, LYG T670 LG T671, LOG T671, LSG T671 LB T673, LV T673, LT T673, LW T673 LH T674 LS T676, LA T676, LO T676, LY T676, LB T676, LH T676, LSB T676, LW T676 LB T67C, LV T67C, LT T67C, LS T67K, LO T67K, LY T67K, LW E67C LS E67B, LA E67B, LO E67B, LY E67B, LB E67C, LV E67C, LT E67C LW T67C LS T679, LY T679, LG T679 LS T770, LO T770, LY T770, LG T770, LP T770 LB T773, LV T773, LT T773, LW T773 LH T774 LS E675, LA E675, LY E675, LS T675 LS T776, LA T776, LO T776, LY T776, LB T776 LHGB T686 LT T68C, LB T68C - Hyper Mini TOPLED® LB M676 - Mini TOPLED Santana® LG M470 LS M47K, LO M47K, LY M47K    Source: http://www.osram.convergy.de/
footprint LED5MM
pins: A, K C

## LEDB152
designator LED?, comment LED   OSRAM: - CHIPLED LG R971, LG N971, LY N971, LG Q971, LY Q971, LO R971, LY R971 LH N974, LH R974 LS Q976, LO Q976, LY Q976 LO Q996 - Hyper CHIPLED LW Q18S LB Q993, LB Q99A, LB R99A - SideLED LS A670, LO A670, LY A670, LG A670, LP A670 LB A673, LV A673, LT A673, LW A673 LH A674 LY A675 LS A676, LA A676, LO A676, LY A676, LW A676 LS A679, LY A679, LG A679 -  Hyper Micro SIDELED® LS Y876, LA Y876, LO Y876, LY Y876 LT Y87S - SmartLED LW L88C, LW L88S LB L89C, LB L89S, LG L890 LS L89K, LO L89K, LY L89K LS L896, LA L896, LO L896, LY L896 - TOPLED LS T670, LO T670, LY T670, LG T670, LP T670 LSG T670, LSP T670, LSY T670, LOP T670, LYG T670 LG T671, LOG T671, LSG T671 LB T673, LV T673, LT T673, LW T673 LH T674 LS T676, LA T676, LO T676, LY T676, LB T676, LH T676, LSB T676, LW T676 LB T67C, LV T67C, LT T67C, LS T67K, LO T67K, LY T67K, LW E67C LS E67B, LA E67B, LO E67B, LY E67B, LB E67C, LV E67C, LT E67C LW T67C LS T679, LY T679, LG T679 LS T770, LO T770, LY T770, LG T770, LP T770 LB T773, LV T773, LT T773, LW T773 LH T774 LS E675, LA E675, LY E675, LS T675 LS T776, LA T776, LO T776, LY T776, LB T776 LHGB T686 LT T68C, LB T68C - Hyper Mini TOPLED® LB M676 - Mini TOPLED Santana® LG M470 LS M47K, LO M47K, LY M47K    Source: http://www.osram.convergy.de/
footprint Q62902-B152
pins: A, K C

## LEDB153
designator LED?, comment LED   OSRAM: - CHIPLED LG R971, LG N971, LY N971, LG Q971, LY Q971, LO R971, LY R971 LH N974, LH R974 LS Q976, LO Q976, LY Q976 LO Q996 - Hyper CHIPLED LW Q18S LB Q993, LB Q99A, LB R99A - SideLED LS A670, LO A670, LY A670, LG A670, LP A670 LB A673, LV A673, LT A673, LW A673 LH A674 LY A675 LS A676, LA A676, LO A676, LY A676, LW A676 LS A679, LY A679, LG A679 -  Hyper Micro SIDELED® LS Y876, LA Y876, LO Y876, LY Y876 LT Y87S - SmartLED LW L88C, LW L88S LB L89C, LB L89S, LG L890 LS L89K, LO L89K, LY L89K LS L896, LA L896, LO L896, LY L896 - TOPLED LS T670, LO T670, LY T670, LG T670, LP T670 LSG T670, LSP T670, LSY T670, LOP T670, LYG T670 LG T671, LOG T671, LSG T671 LB T673, LV T673, LT T673, LW T673 LH T674 LS T676, LA T676, LO T676, LY T676, LB T676, LH T676, LSB T676, LW T676 LB T67C, LV T67C, LT T67C, LS T67K, LO T67K, LY T67K, LW E67C LS E67B, LA E67B, LO E67B, LY E67B, LB E67C, LV E67C, LT E67C LW T67C LS T679, LY T679, LG T679 LS T770, LO T770, LY T770, LG T770, LP T770 LB T773, LV T773, LT T773, LW T773 LH T774 LS E675, LA E675, LY E675, LS T675 LS T776, LA T776, LO T776, LY T776, LB T776 LHGB T686 LT T68C, LB T68C - Hyper Mini TOPLED® LB M676 - Mini TOPLED Santana® LG M470 LS M47K, LO M47K, LY M47K    Source: http://www.osram.convergy.de/
footprint Q62902-B153
pins: A, K C

## LEDB155
designator LED?, comment LED   OSRAM: - CHIPLED LG R971, LG N971, LY N971, LG Q971, LY Q971, LO R971, LY R971 LH N974, LH R974 LS Q976, LO Q976, LY Q976 LO Q996 - Hyper CHIPLED LW Q18S LB Q993, LB Q99A, LB R99A - SideLED LS A670, LO A670, LY A670, LG A670, LP A670 LB A673, LV A673, LT A673, LW A673 LH A674 LY A675 LS A676, LA A676, LO A676, LY A676, LW A676 LS A679, LY A679, LG A679 -  Hyper Micro SIDELED® LS Y876, LA Y876, LO Y876, LY Y876 LT Y87S - SmartLED LW L88C, LW L88S LB L89C, LB L89S, LG L890 LS L89K, LO L89K, LY L89K LS L896, LA L896, LO L896, LY L896 - TOPLED LS T670, LO T670, LY T670, LG T670, LP T670 LSG T670, LSP T670, LSY T670, LOP T670, LYG T670 LG T671, LOG T671, LSG T671 LB T673, LV T673, LT T673, LW T673 LH T674 LS T676, LA T676, LO T676, LY T676, LB T676, LH T676, LSB T676, LW T676 LB T67C, LV T67C, LT T67C, LS T67K, LO T67K, LY T67K, LW E67C LS E67B, LA E67B, LO E67B, LY E67B, LB E67C, LV E67C, LT E67C LW T67C LS T679, LY T679, LG T679 LS T770, LO T770, LY T770, LG T770, LP T770 LB T773, LV T773, LT T773, LW T773 LH T774 LS E675, LA E675, LY E675, LS T675 LS T776, LA T776, LO T776, LY T776, LB T776 LHGB T686 LT T68C, LB T68C - Hyper Mini TOPLED® LB M676 - Mini TOPLED Santana® LG M470 LS M47K, LO M47K, LY M47K    Source: http://www.osram.convergy.de/
footprint Q62902-B155
pins: A, K C

## LEDB156
designator LED?, comment LED   OSRAM: - CHIPLED LG R971, LG N971, LY N971, LG Q971, LY Q971, LO R971, LY R971 LH N974, LH R974 LS Q976, LO Q976, LY Q976 LO Q996 - Hyper CHIPLED LW Q18S LB Q993, LB Q99A, LB R99A - SideLED LS A670, LO A670, LY A670, LG A670, LP A670 LB A673, LV A673, LT A673, LW A673 LH A674 LY A675 LS A676, LA A676, LO A676, LY A676, LW A676 LS A679, LY A679, LG A679 -  Hyper Micro SIDELED® LS Y876, LA Y876, LO Y876, LY Y876 LT Y87S - SmartLED LW L88C, LW L88S LB L89C, LB L89S, LG L890 LS L89K, LO L89K, LY L89K LS L896, LA L896, LO L896, LY L896 - TOPLED LS T670, LO T670, LY T670, LG T670, LP T670 LSG T670, LSP T670, LSY T670, LOP T670, LYG T670 LG T671, LOG T671, LSG T671 LB T673, LV T673, LT T673, LW T673 LH T674 LS T676, LA T676, LO T676, LY T676, LB T676, LH T676, LSB T676, LW T676 LB T67C, LV T67C, LT T67C, LS T67K, LO T67K, LY T67K, LW E67C LS E67B, LA E67B, LO E67B, LY E67B, LB E67C, LV E67C, LT E67C LW T67C LS T679, LY T679, LG T679 LS T770, LO T770, LY T770, LG T770, LP T770 LB T773, LV T773, LT T773, LW T773 LH T774 LS E675, LA E675, LY E675, LS T675 LS T776, LA T776, LO T776, LY T776, LB T776 LHGB T686 LT T68C, LB T68C - Hyper Mini TOPLED® LB M676 - Mini TOPLED Santana® LG M470 LS M47K, LO M47K, LY M47K    Source: http://www.osram.convergy.de/
footprint Q62902-B156
pins: A, K C

## LEDCHIP-LED0603
designator LED?, comment LED   OSRAM: - CHIPLED LG R971, LG N971, LY N971, LG Q971, LY Q971, LO R971, LY R971 LH N974, LH R974 LS Q976, LO Q976, LY Q976 LO Q996 - Hyper CHIPLED LW Q18S LB Q993, LB Q99A, LB R99A - SideLED LS A670, LO A670, LY A670, LG A670, LP A670 LB A673, LV A673, LT A673, LW A673 LH A674 LY A675 LS A676, LA A676, LO A676, LY A676, LW A676 LS A679, LY A679, LG A679 -  Hyper Micro SIDELED® LS Y876, LA Y876, LO Y876, LY Y876 LT Y87S - SmartLED LW L88C, LW L88S LB L89C, LB L89S, LG L890 LS L89K, LO L89K, LY L89K LS L896, LA L896, LO L896, LY L896 - TOPLED LS T670, LO T670, LY T670, LG T670, LP T670 LSG T670, LSP T670, LSY T670, LOP T670, LYG T670 LG T671, LOG T671, LSG T671 LB T673, LV T673, LT T673, LW T673 LH T674 LS T676, LA T676, LO T676, LY T676, LB T676, LH T676, LSB T676, LW T676 LB T67C, LV T67C, LT T67C, LS T67K, LO T67K, LY T67K, LW E67C LS E67B, LA E67B, LO E67B, LY E67B, LB E67C, LV E67C, LT E67C LW T67C LS T679, LY T679, LG T679 LS T770, LO T770, LY T770, LG T770, LP T770 LB T773, LV T773, LT T773, LW T773 LH T774 LS E675, LA E675, LY E675, LS T675 LS T776, LA T776, LO T776, LY T776, LB T776 LHGB T686 LT T68C, LB T68C - Hyper Mini TOPLED® LB M676 - Mini TOPLED Santana® LG M470 LS M47K, LO M47K, LY M47K    Source: http://www.osram.convergy.de/
footprint CHIP-LED0603
pins: A, C

## LEDCHIP-LED0805
designator LED?, comment LED   OSRAM: - CHIPLED LG R971, LG N971, LY N971, LG Q971, LY Q971, LO R971, LY R971 LH N974, LH R974 LS Q976, LO Q976, LY Q976 LO Q996 - Hyper CHIPLED LW Q18S LB Q993, LB Q99A, LB R99A - SideLED LS A670, LO A670, LY A670, LG A670, LP A670 LB A673, LV A673, LT A673, LW A673 LH A674 LY A675 LS A676, LA A676, LO A676, LY A676, LW A676 LS A679, LY A679, LG A679 -  Hyper Micro SIDELED® LS Y876, LA Y876, LO Y876, LY Y876 LT Y87S - SmartLED LW L88C, LW L88S LB L89C, LB L89S, LG L890 LS L89K, LO L89K, LY L89K LS L896, LA L896, LO L896, LY L896 - TOPLED LS T670, LO T670, LY T670, LG T670, LP T670 LSG T670, LSP T670, LSY T670, LOP T670, LYG T670 LG T671, LOG T671, LSG T671 LB T673, LV T673, LT T673, LW T673 LH T674 LS T676, LA T676, LO T676, LY T676, LB T676, LH T676, LSB T676, LW T676 LB T67C, LV T67C, LT T67C, LS T67K, LO T67K, LY T67K, LW E67C LS E67B, LA E67B, LO E67B, LY E67B, LB E67C, LV E67C, LT E67C LW T67C LS T679, LY T679, LG T679 LS T770, LO T770, LY T770, LG T770, LP T770 LB T773, LV T773, LT T773, LW T773 LH T774 LS E675, LA E675, LY E675, LS T675 LS T776, LA T776, LO T776, LY T776, LB T776 LHGB T686 LT T68C, LB T68C - Hyper Mini TOPLED® LB M676 - Mini TOPLED Santana® LG M470 LS M47K, LO M47K, LY M47K    Source: http://www.osram.convergy.de/
footprint CHIP-LED0805
pins: A, C

## LEDCHIPLED-0603-TTW
designator LED?, comment LED   OSRAM: - CHIPLED LG R971, LG N971, LY N971, LG Q971, LY Q971, LO R971, LY R971 LH N974, LH R974 LS Q976, LO Q976, LY Q976 LO Q996 - Hyper CHIPLED LW Q18S LB Q993, LB Q99A, LB R99A - SideLED LS A670, LO A670, LY A670, LG A670, LP A670 LB A673, LV A673, LT A673, LW A673 LH A674 LY A675 LS A676, LA A676, LO A676, LY A676, LW A676 LS A679, LY A679, LG A679 -  Hyper Micro SIDELED® LS Y876, LA Y876, LO Y876, LY Y876 LT Y87S - SmartLED LW L88C, LW L88S LB L89C, LB L89S, LG L890 LS L89K, LO L89K, LY L89K LS L896, LA L896, LO L896, LY L896 - TOPLED LS T670, LO T670, LY T670, LG T670, LP T670 LSG T670, LSP T670, LSY T670, LOP T670, LYG T670 LG T671, LOG T671, LSG T671 LB T673, LV T673, LT T673, LW T673 LH T674 LS T676, LA T676, LO T676, LY T676, LB T676, LH T676, LSB T676, LW T676 LB T67C, LV T67C, LT T67C, LS T67K, LO T67K, LY T67K, LW E67C LS E67B, LA E67B, LO E67B, LY E67B, LB E67C, LV E67C, LT E67C LW T67C LS T679, LY T679, LG T679 LS T770, LO T770, LY T770, LG T770, LP T770 LB T773, LV T773, LT T773, LW T773 LH T774 LS E675, LA E675, LY E675, LS T675 LS T776, LA T776, LO T776, LY T776, LB T776 LHGB T686 LT T68C, LB T68C - Hyper Mini TOPLED® LB M676 - Mini TOPLED Santana® LG M470 LS M47K, LO M47K, LY M47K    Source: http://www.osram.convergy.de/
footprint CHIPLED-0603-TTW
pins: A@1 A, C@1 C

## LEDCHIPLED_0603
designator LED?, comment LED   OSRAM: - CHIPLED LG R971, LG N971, LY N971, LG Q971, LY Q971, LO R971, LY R971 LH N974, LH R974 LS Q976, LO Q976, LY Q976 LO Q996 - Hyper CHIPLED LW Q18S LB Q993, LB Q99A, LB R99A - SideLED LS A670, LO A670, LY A670, LG A670, LP A670 LB A673, LV A673, LT A673, LW A673 LH A674 LY A675 LS A676, LA A676, LO A676, LY A676, LW A676 LS A679, LY A679, LG A679 -  Hyper Micro SIDELED® LS Y876, LA Y876, LO Y876, LY Y876 LT Y87S - SmartLED LW L88C, LW L88S LB L89C, LB L89S, LG L890 LS L89K, LO L89K, LY L89K LS L896, LA L896, LO L896, LY L896 - TOPLED LS T670, LO T670, LY T670, LG T670, LP T670 LSG T670, LSP T670, LSY T670, LOP T670, LYG T670 LG T671, LOG T671, LSG T671 LB T673, LV T673, LT T673, LW T673 LH T674 LS T676, LA T676, LO T676, LY T676, LB T676, LH T676, LSB T676, LW T676 LB T67C, LV T67C, LT T67C, LS T67K, LO T67K, LY T67K, LW E67C LS E67B, LA E67B, LO E67B, LY E67B, LB E67C, LV E67C, LT E67C LW T67C LS T679, LY T679, LG T679 LS T770, LO T770, LY T770, LG T770, LP T770 LB T773, LV T773, LT T773, LW T773 LH T774 LS E675, LA E675, LY E675, LS T675 LS T776, LA T776, LO T776, LY T776, LB T776 LHGB T686 LT T68C, LB T68C - Hyper Mini TOPLED® LB M676 - Mini TOPLED Santana® LG M470 LS M47K, LO M47K, LY M47K    Source: http://www.osram.convergy.de/
footprint CHIPLED_0603
pins: A, C

## LEDCHIPLED_0805
designator LED?, comment LED   OSRAM: - CHIPLED LG R971, LG N971, LY N971, LG Q971, LY Q971, LO R971, LY R971 LH N974, LH R974 LS Q976, LO Q976, LY Q976 LO Q996 - Hyper CHIPLED LW Q18S LB Q993, LB Q99A, LB R99A - SideLED LS A670, LO A670, LY A670, LG A670, LP A670 LB A673, LV A673, LT A673, LW A673 LH A674 LY A675 LS A676, LA A676, LO A676, LY A676, LW A676 LS A679, LY A679, LG A679 -  Hyper Micro SIDELED® LS Y876, LA Y876, LO Y876, LY Y876 LT Y87S - SmartLED LW L88C, LW L88S LB L89C, LB L89S, LG L890 LS L89K, LO L89K, LY L89K LS L896, LA L896, LO L896, LY L896 - TOPLED LS T670, LO T670, LY T670, LG T670, LP T670 LSG T670, LSP T670, LSY T670, LOP T670, LYG T670 LG T671, LOG T671, LSG T671 LB T673, LV T673, LT T673, LW T673 LH T674 LS T676, LA T676, LO T676, LY T676, LB T676, LH T676, LSB T676, LW T676 LB T67C, LV T67C, LT T67C, LS T67K, LO T67K, LY T67K, LW E67C LS E67B, LA E67B, LO E67B, LY E67B, LB E67C, LV E67C, LT E67C LW T67C LS T679, LY T679, LG T679 LS T770, LO T770, LY T770, LG T770, LP T770 LB T773, LV T773, LT T773, LW T773 LH T774 LS E675, LA E675, LY E675, LS T675 LS T776, LA T776, LO T776, LY T776, LB T776 LHGB T686 LT T68C, LB T68C - Hyper Mini TOPLED® LB M676 - Mini TOPLED Santana® LG M470 LS M47K, LO M47K, LY M47K    Source: http://www.osram.convergy.de/
footprint CHIPLED_0805
pins: A, C

## LEDCHIPLED_1206
designator LED?, comment LED   OSRAM: - CHIPLED LG R971, LG N971, LY N971, LG Q971, LY Q971, LO R971, LY R971 LH N974, LH R974 LS Q976, LO Q976, LY Q976 LO Q996 - Hyper CHIPLED LW Q18S LB Q993, LB Q99A, LB R99A - SideLED LS A670, LO A670, LY A670, LG A670, LP A670 LB A673, LV A673, LT A673, LW A673 LH A674 LY A675 LS A676, LA A676, LO A676, LY A676, LW A676 LS A679, LY A679, LG A679 -  Hyper Micro SIDELED® LS Y876, LA Y876, LO Y876, LY Y876 LT Y87S - SmartLED LW L88C, LW L88S LB L89C, LB L89S, LG L890 LS L89K, LO L89K, LY L89K LS L896, LA L896, LO L896, LY L896 - TOPLED LS T670, LO T670, LY T670, LG T670, LP T670 LSG T670, LSP T670, LSY T670, LOP T670, LYG T670 LG T671, LOG T671, LSG T671 LB T673, LV T673, LT T673, LW T673 LH T674 LS T676, LA T676, LO T676, LY T676, LB T676, LH T676, LSB T676, LW T676 LB T67C, LV T67C, LT T67C, LS T67K, LO T67K, LY T67K, LW E67C LS E67B, LA E67B, LO E67B, LY E67B, LB E67C, LV E67C, LT E67C LW T67C LS T679, LY T679, LG T679 LS T770, LO T770, LY T770, LG T770, LP T770 LB T773, LV T773, LT T773, LW T773 LH T774 LS E675, LA E675, LY E675, LS T675 LS T776, LA T776, LO T776, LY T776, LB T776 LHGB T686 LT T68C, LB T68C - Hyper Mini TOPLED® LB M676 - Mini TOPLED Santana® LG M470 LS M47K, LO M47K, LY M47K    Source: http://www.osram.convergy.de/
footprint CHIPLED_1206
pins: A, C

## LEDIRL80A
designator LED?, comment LED   OSRAM: - CHIPLED LG R971, LG N971, LY N971, LG Q971, LY Q971, LO R971, LY R971 LH N974, LH R974 LS Q976, LO Q976, LY Q976 LO Q996 - Hyper CHIPLED LW Q18S LB Q993, LB Q99A, LB R99A - SideLED LS A670, LO A670, LY A670, LG A670, LP A670 LB A673, LV A673, LT A673, LW A673 LH A674 LY A675 LS A676, LA A676, LO A676, LY A676, LW A676 LS A679, LY A679, LG A679 -  Hyper Micro SIDELED® LS Y876, LA Y876, LO Y876, LY Y876 LT Y87S - SmartLED LW L88C, LW L88S LB L89C, LB L89S, LG L890 LS L89K, LO L89K, LY L89K LS L896, LA L896, LO L896, LY L896 - TOPLED LS T670, LO T670, LY T670, LG T670, LP T670 LSG T670, LSP T670, LSY T670, LOP T670, LYG T670 LG T671, LOG T671, LSG T671 LB T673, LV T673, LT T673, LW T673 LH T674 LS T676, LA T676, LO T676, LY T676, LB T676, LH T676, LSB T676, LW T676 LB T67C, LV T67C, LT T67C, LS T67K, LO T67K, LY T67K, LW E67C LS E67B, LA E67B, LO E67B, LY E67B, LB E67C, LV E67C, LT E67C LW T67C LS T679, LY T679, LG T679 LS T770, LO T770, LY T770, LG T770, LP T770 LB T773, LV T773, LT T773, LW T773 LH T774 LS E675, LA E675, LY E675, LS T675 LS T776, LA T776, LO T776, LY T776, LB T776 LHGB T686 LT T68C, LB T68C - Hyper Mini TOPLED® LB M676 - Mini TOPLED Santana® LG M470 LS M47K, LO M47K, LY M47K    Source: http://www.osram.convergy.de/
footprint IRL80A
pins: A, K C

## LEDLD260
designator LED?, comment LED   OSRAM: - CHIPLED LG R971, LG N971, LY N971, LG Q971, LY Q971, LO R971, LY R971 LH N974, LH R974 LS Q976, LO Q976, LY Q976 LO Q996 - Hyper CHIPLED LW Q18S LB Q993, LB Q99A, LB R99A - SideLED LS A670, LO A670, LY A670, LG A670, LP A670 LB A673, LV A673, LT A673, LW A673 LH A674 LY A675 LS A676, LA A676, LO A676, LY A676, LW A676 LS A679, LY A679, LG A679 -  Hyper Micro SIDELED® LS Y876, LA Y876, LO Y876, LY Y876 LT Y87S - SmartLED LW L88C, LW L88S LB L89C, LB L89S, LG L890 LS L89K, LO L89K, LY L89K LS L896, LA L896, LO L896, LY L896 - TOPLED LS T670, LO T670, LY T670, LG T670, LP T670 LSG T670, LSP T670, LSY T670, LOP T670, LYG T670 LG T671, LOG T671, LSG T671 LB T673, LV T673, LT T673, LW T673 LH T674 LS T676, LA T676, LO T676, LY T676, LB T676, LH T676, LSB T676, LW T676 LB T67C, LV T67C, LT T67C, LS T67K, LO T67K, LY T67K, LW E67C LS E67B, LA E67B, LO E67B, LY E67B, LB E67C, LV E67C, LT E67C LW T67C LS T679, LY T679, LG T679 LS T770, LO T770, LY T770, LG T770, LP T770 LB T773, LV T773, LT T773, LW T773 LH T774 LS E675, LA E675, LY E675, LS T675 LS T776, LA T776, LO T776, LY T776, LB T776 LHGB T686 LT T68C, LB T68C - Hyper Mini TOPLED® LB M676 - Mini TOPLED Santana® LG M470 LS M47K, LO M47K, LY M47K    Source: http://www.osram.convergy.de/
footprint LD260
pins: A, K C

## LEDLSU260
designator LED?, comment LED   OSRAM: - CHIPLED LG R971, LG N971, LY N971, LG Q971, LY Q971, LO R971, LY R971 LH N974, LH R974 LS Q976, LO Q976, LY Q976 LO Q996 - Hyper CHIPLED LW Q18S LB Q993, LB Q99A, LB R99A - SideLED LS A670, LO A670, LY A670, LG A670, LP A670 LB A673, LV A673, LT A673, LW A673 LH A674 LY A675 LS A676, LA A676, LO A676, LY A676, LW A676 LS A679, LY A679, LG A679 -  Hyper Micro SIDELED® LS Y876, LA Y876, LO Y876, LY Y876 LT Y87S - SmartLED LW L88C, LW L88S LB L89C, LB L89S, LG L890 LS L89K, LO L89K, LY L89K LS L896, LA L896, LO L896, LY L896 - TOPLED LS T670, LO T670, LY T670, LG T670, LP T670 LSG T670, LSP T670, LSY T670, LOP T670, LYG T670 LG T671, LOG T671, LSG T671 LB T673, LV T673, LT T673, LW T673 LH T674 LS T676, LA T676, LO T676, LY T676, LB T676, LH T676, LSB T676, LW T676 LB T67C, LV T67C, LT T67C, LS T67K, LO T67K, LY T67K, LW E67C LS E67B, LA E67B, LO E67B, LY E67B, LB E67C, LV E67C, LT E67C LW T67C LS T679, LY T679, LG T679 LS T770, LO T770, LY T770, LG T770, LP T770 LB T773, LV T773, LT T773, LW T773 LH T774 LS E675, LA E675, LY E675, LS T675 LS T776, LA T776, LO T776, LY T776, LB T776 LHGB T686 LT T68C, LB T68C - Hyper Mini TOPLED® LB M676 - Mini TOPLED Santana® LG M470 LS M47K, LO M47K, LY M47K    Source: http://www.osram.convergy.de/
footprint LSU260
pins: A, K C

## LEDLZR181
designator LED?, comment LED   OSRAM: - CHIPLED LG R971, LG N971, LY N971, LG Q971, LY Q971, LO R971, LY R971 LH N974, LH R974 LS Q976, LO Q976, LY Q976 LO Q996 - Hyper CHIPLED LW Q18S LB Q993, LB Q99A, LB R99A - SideLED LS A670, LO A670, LY A670, LG A670, LP A670 LB A673, LV A673, LT A673, LW A673 LH A674 LY A675 LS A676, LA A676, LO A676, LY A676, LW A676 LS A679, LY A679, LG A679 -  Hyper Micro SIDELED® LS Y876, LA Y876, LO Y876, LY Y876 LT Y87S - SmartLED LW L88C, LW L88S LB L89C, LB L89S, LG L890 LS L89K, LO L89K, LY L89K LS L896, LA L896, LO L896, LY L896 - TOPLED LS T670, LO T670, LY T670, LG T670, LP T670 LSG T670, LSP T670, LSY T670, LOP T670, LYG T670 LG T671, LOG T671, LSG T671 LB T673, LV T673, LT T673, LW T673 LH T674 LS T676, LA T676, LO T676, LY T676, LB T676, LH T676, LSB T676, LW T676 LB T67C, LV T67C, LT T67C, LS T67K, LO T67K, LY T67K, LW E67C LS E67B, LA E67B, LO E67B, LY E67B, LB E67C, LV E67C, LT E67C LW T67C LS T679, LY T679, LG T679 LS T770, LO T770, LY T770, LG T770, LP T770 LB T773, LV T773, LT T773, LW T773 LH T774 LS E675, LA E675, LY E675, LS T675 LS T776, LA T776, LO T776, LY T776, LB T776 LHGB T686 LT T68C, LB T68C - Hyper Mini TOPLED® LB M676 - Mini TOPLED Santana® LG M470 LS M47K, LO M47K, LY M47K    Source: http://www.osram.convergy.de/
footprint LZR181
pins: A, K C

## LEDMICRO-SIDELED
designator LED?, comment LED   OSRAM: - CHIPLED LG R971, LG N971, LY N971, LG Q971, LY Q971, LO R971, LY R971 LH N974, LH R974 LS Q976, LO Q976, LY Q976 LO Q996 - Hyper CHIPLED LW Q18S LB Q993, LB Q99A, LB R99A - SideLED LS A670, LO A670, LY A670, LG A670, LP A670 LB A673, LV A673, LT A673, LW A673 LH A674 LY A675 LS A676, LA A676, LO A676, LY A676, LW A676 LS A679, LY A679, LG A679 -  Hyper Micro SIDELED® LS Y876, LA Y876, LO Y876, LY Y876 LT Y87S - SmartLED LW L88C, LW L88S LB L89C, LB L89S, LG L890 LS L89K, LO L89K, LY L89K LS L896, LA L896, LO L896, LY L896 - TOPLED LS T670, LO T670, LY T670, LG T670, LP T670 LSG T670, LSP T670, LSY T670, LOP T670, LYG T670 LG T671, LOG T671, LSG T671 LB T673, LV T673, LT T673, LW T673 LH T674 LS T676, LA T676, LO T676, LY T676, LB T676, LH T676, LSB T676, LW T676 LB T67C, LV T67C, LT T67C, LS T67K, LO T67K, LY T67K, LW E67C LS E67B, LA E67B, LO E67B, LY E67B, LB E67C, LV E67C, LT E67C LW T67C LS T679, LY T679, LG T679 LS T770, LO T770, LY T770, LG T770, LP T770 LB T773, LV T773, LT T773, LW T773 LH T774 LS E675, LA E675, LY E675, LS T675 LS T776, LA T776, LO T776, LY T776, LB T776 LHGB T686 LT T68C, LB T68C - Hyper Mini TOPLED® LB M676 - Mini TOPLED Santana® LG M470 LS M47K, LO M47K, LY M47K    Source: http://www.osram.convergy.de/
footprint MICRO-SIDELED
pins: A, C

## LEDMINI-TOP
designator LED?, comment LED   OSRAM: - CHIPLED LG R971, LG N971, LY N971, LG Q971, LY Q971, LO R971, LY R971 LH N974, LH R974 LS Q976, LO Q976, LY Q976 LO Q996 - Hyper CHIPLED LW Q18S LB Q993, LB Q99A, LB R99A - SideLED LS A670, LO A670, LY A670, LG A670, LP A670 LB A673, LV A673, LT A673, LW A673 LH A674 LY A675 LS A676, LA A676, LO A676, LY A676, LW A676 LS A679, LY A679, LG A679 -  Hyper Micro SIDELED® LS Y876, LA Y876, LO Y876, LY Y876 LT Y87S - SmartLED LW L88C, LW L88S LB L89C, LB L89S, LG L890 LS L89K, LO L89K, LY L89K LS L896, LA L896, LO L896, LY L896 - TOPLED LS T670, LO T670, LY T670, LG T670, LP T670 LSG T670, LSP T670, LSY T670, LOP T670, LYG T670 LG T671, LOG T671, LSG T671 LB T673, LV T673, LT T673, LW T673 LH T674 LS T676, LA T676, LO T676, LY T676, LB T676, LH T676, LSB T676, LW T676 LB T67C, LV T67C, LT T67C, LS T67K, LO T67K, LY T67K, LW E67C LS E67B, LA E67B, LO E67B, LY E67B, LB E67C, LV E67C, LT E67C LW T67C LS T679, LY T679, LG T679 LS T770, LO T770, LY T770, LG T770, LP T770 LB T773, LV T773, LT T773, LW T773 LH T774 LS E675, LA E675, LY E675, LS T675 LS T776, LA T776, LO T776, LY T776, LB T776 LHGB T686 LT T68C, LB T68C - Hyper Mini TOPLED® LB M676 - Mini TOPLED Santana® LG M470 LS M47K, LO M47K, LY M47K    Source: http://www.osram.convergy.de/
footprint OSRAM-MINI-TOP-LED
pins: A, C

## LEDP-LCC-2
designator LED?, comment LED   OSRAM: - CHIPLED LG R971, LG N971, LY N971, LG Q971, LY Q971, LO R971, LY R971 LH N974, LH R974 LS Q976, LO Q976, LY Q976 LO Q996 - Hyper CHIPLED LW Q18S LB Q993, LB Q99A, LB R99A - SideLED LS A670, LO A670, LY A670, LG A670, LP A670 LB A673, LV A673, LT A673, LW A673 LH A674 LY A675 LS A676, LA A676, LO A676, LY A676, LW A676 LS A679, LY A679, LG A679 -  Hyper Micro SIDELED® LS Y876, LA Y876, LO Y876, LY Y876 LT Y87S - SmartLED LW L88C, LW L88S LB L89C, LB L89S, LG L890 LS L89K, LO L89K, LY L89K LS L896, LA L896, LO L896, LY L896 - TOPLED LS T670, LO T670, LY T670, LG T670, LP T670 LSG T670, LSP T670, LSY T670, LOP T670, LYG T670 LG T671, LOG T671, LSG T671 LB T673, LV T673, LT T673, LW T673 LH T674 LS T676, LA T676, LO T676, LY T676, LB T676, LH T676, LSB T676, LW T676 LB T67C, LV T67C, LT T67C, LS T67K, LO T67K, LY T67K, LW E67C LS E67B, LA E67B, LO E67B, LY E67B, LB E67C, LV E67C, LT E67C LW T67C LS T679, LY T679, LG T679 LS T770, LO T770, LY T770, LG T770, LP T770 LB T773, LV T773, LT T773, LW T773 LH T774 LS E675, LA E675, LY E675, LS T675 LS T776, LA T776, LO T776, LY T776, LB T776 LHGB T686 LT T68C, LB T68C - Hyper Mini TOPLED® LB M676 - Mini TOPLED Santana® LG M470 LS M47K, LO M47K, LY M47K    Source: http://www.osram.convergy.de/
footprint P-LCC-2
pins: A, C

## LEDP-LCC-2-BACK
designator LED?, comment LED   OSRAM: - CHIPLED LG R971, LG N971, LY N971, LG Q971, LY Q971, LO R971, LY R971 LH N974, LH R974 LS Q976, LO Q976, LY Q976 LO Q996 - Hyper CHIPLED LW Q18S LB Q993, LB Q99A, LB R99A - SideLED LS A670, LO A670, LY A670, LG A670, LP A670 LB A673, LV A673, LT A673, LW A673 LH A674 LY A675 LS A676, LA A676, LO A676, LY A676, LW A676 LS A679, LY A679, LG A679 -  Hyper Micro SIDELED® LS Y876, LA Y876, LO Y876, LY Y876 LT Y87S - SmartLED LW L88C, LW L88S LB L89C, LB L89S, LG L890 LS L89K, LO L89K, LY L89K LS L896, LA L896, LO L896, LY L896 - TOPLED LS T670, LO T670, LY T670, LG T670, LP T670 LSG T670, LSP T670, LSY T670, LOP T670, LYG T670 LG T671, LOG T671, LSG T671 LB T673, LV T673, LT T673, LW T673 LH T674 LS T676, LA T676, LO T676, LY T676, LB T676, LH T676, LSB T676, LW T676 LB T67C, LV T67C, LT T67C, LS T67K, LO T67K, LY T67K, LW E67C LS E67B, LA E67B, LO E67B, LY E67B, LB E67C, LV E67C, LT E67C LW T67C LS T679, LY T679, LG T679 LS T770, LO T770, LY T770, LG T770, LP T770 LB T773, LV T773, LT T773, LW T773 LH T774 LS E675, LA E675, LY E675, LS T675 LS T776, LA T776, LO T776, LY T776, LB T776 LHGB T686 LT T68C, LB T68C - Hyper Mini TOPLED® LB M676 - Mini TOPLED Santana® LG M470 LS M47K, LO M47K, LY M47K    Source: http://www.osram.convergy.de/
footprint P-LCC-2-TOPLED-RG
pins: A, C